# Altium integrated library NXP Semiconductors Cortex-M0.IntLib: 92 symbols (part 1 of 5)
Pins are listed as number, name and electrical type; pins without a type are passive.

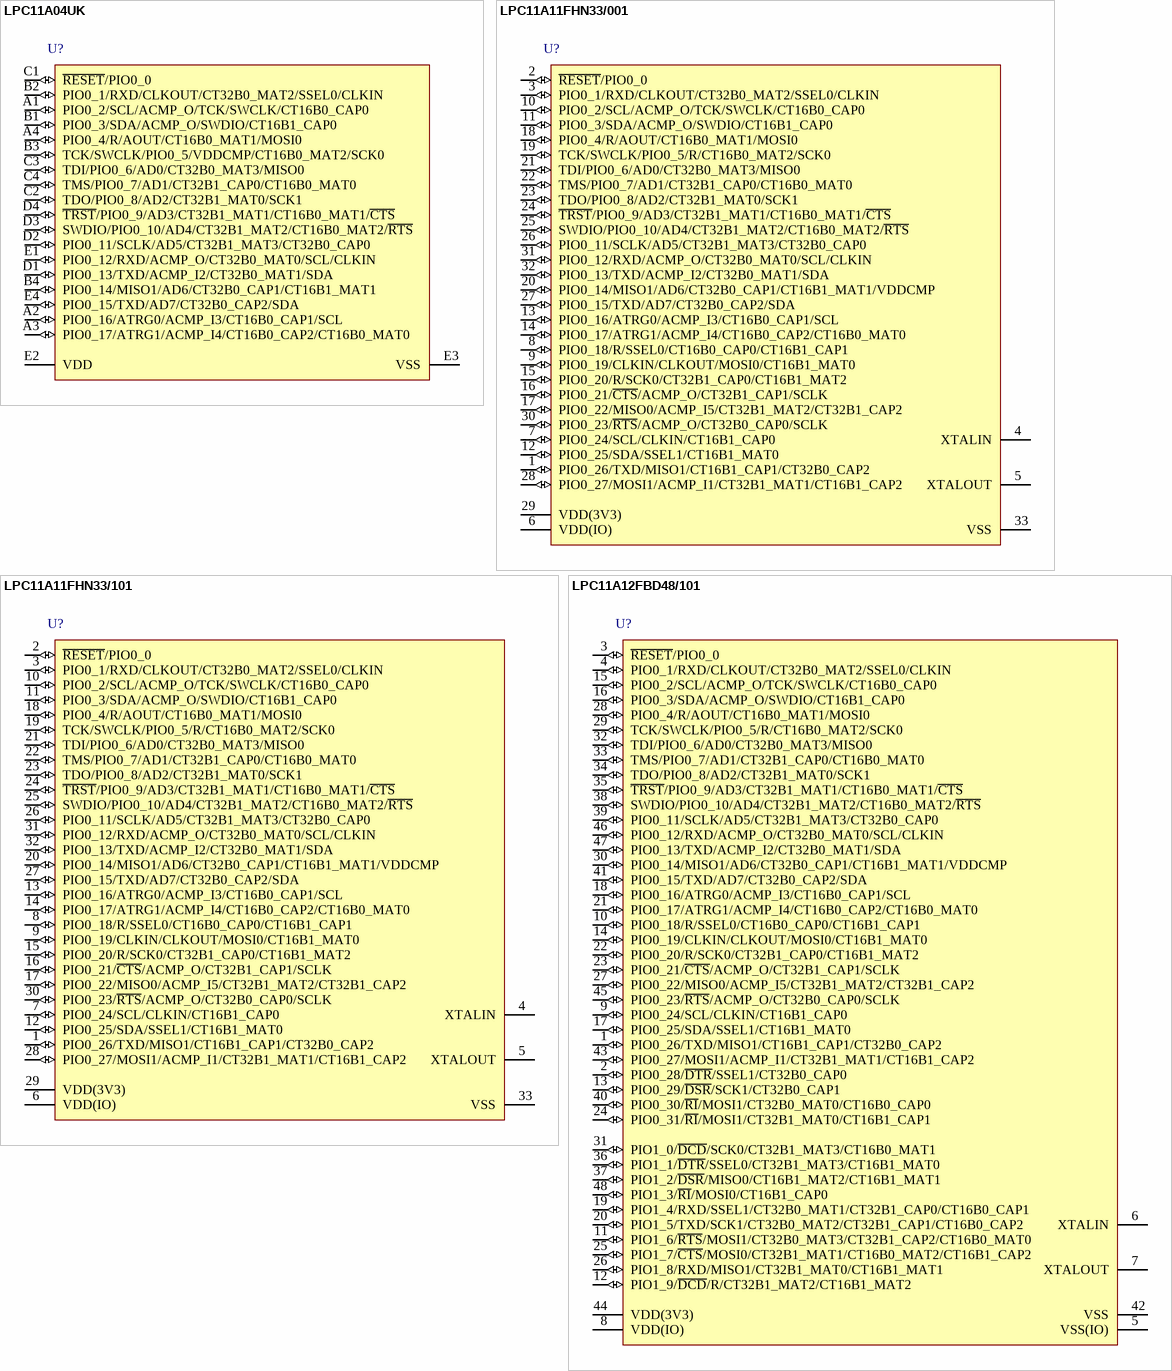
[diagram p0: symbols LPC11A04UK to LPC11A12FBD48/101]

## LPC11A04UK
designator U?
32-bit ARM Cortex-M0 MCU, 32 kB Flash, 8 kB SRAM, 4 kB EEPROM, 1 SSP/SPI, 20-Ball WLCSP; fmax: 50 MHz; SRAM: 8 kB; Flash: 32 kB; EEPROM: 4 kB; GPIOs: 18; UART: 1; PLL: Y; Timers: 4; ADC channels: 8; VDD (min): 2.6 V; VDD (typ): 3.3 V; VDD (max): 3.6 V; DatasheetVersion: Rev.1, Mar-2012; PackageVersion: Mar-2012; PackageReference: LPC11AxxUK; PackageDescription: WLCSP20: Wafer Level Chip-Size Package; 20 Bumps; Body 2.5 x 2.5 x 0.6 mm; I2C: 1; SPI: 1; SSP: 1; Analog comparators: 1; Temperature sensors: 1; ComponentLink1Description: Manufacturer URL; ComponentLink1URL: http://www.nxp.com/; ComponentLink2Description: Datasheet; ComponentLink2URL: http://www.nxp.com/documents/data_sheet/LPC11AXX.pdf
footprint LPC11AxxUK (BGA, 20-Leads, Body 2.55x2.55mm, Pitch 0.5mm, NXP Recommended Pads)
pins: A1 PIO0_2/SCL/ACMP_O/TCK/SWCLK/CT16B0_CAP0 (io), A2 PIO0_16/ATRG0/ACMP_I3/CT16B0_CAP1/SCL (io), A3 PIO0_17/ATRG1/ACMP_I4/CT16B0_CAP2/CT16B0_MAT0 (io), A4 PIO0_4/R/AOUT/CT16B0_MAT1/MOSI0 (io), B1 PIO0_3/SDA/ACMP_O/SWDIO/CT16B1_CAP0 (io), B2 PIO0_1/RXD/CLKOUT/CT32B0_MAT2/SSEL0/CLKIN (io), B3 TCK/SWCLK/PIO0_5/VDDCMP/CT16B0_MAT2/SCK0 (io), B4 PIO0_14/MISO1/AD6/CT32B0_CAP1/CT16B1_MAT1 (io), C1 ~{RESET}/PIO0_0 (io), C2 TDO/PIO0_8/AD2/CT32B1_MAT0/SCK1 (io), C3 TDI/PIO0_6/AD0/CT32B0_MAT3/MISO0 (io), C4 TMS/PIO0_7/AD1/CT32B1_CAP0/CT16B0_MAT0 (io), D1 PIO0_13/TXD/ACMP_I2/CT32B0_MAT1/SDA (io), D2 PIO0_11/SCLK/AD5/CT32B1_MAT3/CT32B0_CAP0 (io), D3 SWDIO/PIO0_10/AD4/CT32B1_MAT2/CT16B0_MAT2/~{RTS} (io), D4 ~{TRST}/PIO0_9/AD3/CT32B1_MAT1/CT16B0_MAT1/~{CTS} (io), E1 PIO0_12/RXD/ACMP_O/CT32B0_MAT0/SCL/CLKIN (io), E2 VDD (power), E3 VSS (power), E4 PIO0_15/TXD/AD7/CT32B0_CAP2/SDA (io)

## LPC11A11FHN33/001
designator U?
32-bit ARM Cortex-M0 MCU, 8 kB Flash, 2 kB SRAM, 512 Bytes EEPROM, 2 SSP/SPI, 32-Pin HVQFN; fmax: 50 MHz; SRAM: 2 kB; Flash: 8 kB; EEPROM: 0.5 kB; GPIOs: 28; UART: 1; SPI: 2; PLL: Y; Timers: 4; ADC channels: 8; VDD (min): 2.6 V; VDD (typ): 3.3 V; VDD (max): 3.6 V; DatasheetVersion: Rev.1, Mar-2012; PackageVersion: Jun-2009; PackageReference: SOT865-3; PackageDescription: HVQFN32: Plastic Thermal Enhanced Very Thin Quad Flat Package; No Leads; 32 Terminals; Body 7 x 7 x 0.85 mm; I2C: 1; SSP: 2; Analog comparators: 1; Temperature sensors: 1; Code_JEDEC: MO-220; ComponentLink1Description: Manufacturer URL; ComponentLink1URL: http://www.nxp.com/; ComponentLink2Description: Datasheet; ComponentLink2URL: http://www.nxp.com/documents/data_sheet/LPC11AXX.pdf
footprint SOT865-3_V (QFN, 32-Leads, Body 7x7mm, Pitch 0.65mm, Thermal Pad 4.7x4.7mm, NXP Recommended)
footprint SOT865-3_N (QFN, 32-Leads, Body 7x7mm, Pitch 0.65mm, Thermal Pad 4.9x4.9mm, IPC Medium Density)
footprint SOT865-3_L (QFN, 32-Leads, Body 7x7mm, Pitch 0.65mm, Thermal Pad 4.9x4.9mm, IPC High Density)
footprint SOT865-3_M (QFN, 32-Leads, Body 7x7mm, Pitch 0.65mm, Thermal Pad 4.9x4.9mm, IPC Low Density)
pins: 1 PIO0_26/TXD/MISO1/CT16B1_CAP1/CT32B0_CAP2 (io), 2 ~{RESET}/PIO0_0 (io), 3 PIO0_1/RXD/CLKOUT/CT32B0_MAT2/SSEL0/CLKIN (io), 4 XTALIN, 5 XTALOUT, 6 VDD(IO) (power), 7 PIO0_24/SCL/CLKIN/CT16B1_CAP0 (io), 8 PIO0_18/R/SSEL0/CT16B0_CAP0/CT16B1_CAP1 (io), 9 PIO0_19/CLKIN/CLKOUT/MOSI0/CT16B1_MAT0 (io), 10 PIO0_2/SCL/ACMP_O/TCK/SWCLK/CT16B0_CAP0 (io), 11 PIO0_3/SDA/ACMP_O/SWDIO/CT16B1_CAP0 (io), 12 PIO0_25/SDA/SSEL1/CT16B1_MAT0 (io), 13 PIO0_16/ATRG0/ACMP_I3/CT16B0_CAP1/SCL (io), 14 PIO0_17/ATRG1/ACMP_I4/CT16B0_CAP2/CT16B0_MAT0 (io), 15 PIO0_20/R/SCK0/CT32B1_CAP0/CT16B1_MAT2 (io), 16 PIO0_21/~{CTS}/ACMP_O/CT32B1_CAP1/SCLK (io), 17 PIO0_22/MISO0/ACMP_I5/CT32B1_MAT2/CT32B1_CAP2 (io), 18 PIO0_4/R/AOUT/CT16B0_MAT1/MOSI0 (io), 19 TCK/SWCLK/PIO0_5/R/CT16B0_MAT2/SCK0 (io), 20 PIO0_14/MISO1/AD6/CT32B0_CAP1/CT16B1_MAT1/VDDCMP (io), 21 TDI/PIO0_6/AD0/CT32B0_MAT3/MISO0 (io), 22 TMS/PIO0_7/AD1/CT32B1_CAP0/CT16B0_MAT0 (io), 23 TDO/PIO0_8/AD2/CT32B1_MAT0/SCK1 (io), 24 ~{TRST}/PIO0_9/AD3/CT32B1_MAT1/CT16B0_MAT1/~{CTS} (io), 25 SWDIO/PIO0_10/AD4/CT32B1_MAT2/CT16B0_MAT2/~{RTS} (io), 26 PIO0_11/SCLK/AD5/CT32B1_MAT3/CT32B0_CAP0 (io), 27 PIO0_15/TXD/AD7/CT32B0_CAP2/SDA (io), 28 PIO0_27/MOSI1/ACMP_I1/CT32B1_MAT1/CT16B1_CAP2 (io), 29 VDD(3V3) (power), 30 PIO0_23/~{RTS}/ACMP_O/CT32B0_CAP0/SCLK (io), 31 PIO0_12/RXD/ACMP_O/CT32B0_MAT0/SCL/CLKIN (io), 32 PIO0_13/TXD/ACMP_I2/CT32B0_MAT1/SDA (io), 33 VSS (power)

## LPC11A11FHN33/101
designator U?
32-bit ARM Cortex-M0 MCU, 8 kB Flash, 2 kB SRAM, 512 Bytes EEPROM, 2 SSP/SPI, 32-Pin HVQFN; fmax: 50 MHz; GPIOs: 28; PLL: Y; Timers: 4; VDD (min): 2.6 V; VDD (typ): 3.3 V; VDD (max): 3.6 V; DatasheetVersion: Rev.1, Mar-2012; PackageVersion: Jun-2009; PackageReference: SOT865-3; PackageDescription: HVQFN32: Plastic Thermal Enhanced Very Thin Quad Flat Package; No Leads; 32 Terminals; Body 7 x 7 x 0.85 mm; Code_JEDEC: MO-220; ComponentLink1Description: Manufacturer URL; ComponentLink1URL: http://www.nxp.com/; ComponentLink2Description: Datasheet; ComponentLink2URL: http://www.nxp.com/documents/data_sheet/LPC11AXX.pdf
footprint SOT865-3_V (QFN, 32-Leads, Body 7x7mm, Pitch 0.65mm, Thermal Pad 4.7x4.7mm, NXP Recommended)
footprint SOT865-3_N (QFN, 32-Leads, Body 7x7mm, Pitch 0.65mm, Thermal Pad 4.9x4.9mm, IPC Medium Density)
footprint SOT865-3_L (QFN, 32-Leads, Body 7x7mm, Pitch 0.65mm, Thermal Pad 4.9x4.9mm, IPC High Density)
footprint SOT865-3_M (QFN, 32-Leads, Body 7x7mm, Pitch 0.65mm, Thermal Pad 4.9x4.9mm, IPC Low Density)
pins: 1 PIO0_26/TXD/MISO1/CT16B1_CAP1/CT32B0_CAP2 (io), 2 ~{RESET}/PIO0_0 (io), 3 PIO0_1/RXD/CLKOUT/CT32B0_MAT2/SSEL0/CLKIN (io), 4 XTALIN, 5 XTALOUT, 6 VDD(IO) (power), 7 PIO0_24/SCL/CLKIN/CT16B1_CAP0 (io), 8 PIO0_18/R/SSEL0/CT16B0_CAP0/CT16B1_CAP1 (io), 9 PIO0_19/CLKIN/CLKOUT/MOSI0/CT16B1_MAT0 (io), 10 PIO0_2/SCL/ACMP_O/TCK/SWCLK/CT16B0_CAP0 (io), 11 PIO0_3/SDA/ACMP_O/SWDIO/CT16B1_CAP0 (io), 12 PIO0_25/SDA/SSEL1/CT16B1_MAT0 (io), 13 PIO0_16/ATRG0/ACMP_I3/CT16B0_CAP1/SCL (io), 14 PIO0_17/ATRG1/ACMP_I4/CT16B0_CAP2/CT16B0_MAT0 (io), 15 PIO0_20/R/SCK0/CT32B1_CAP0/CT16B1_MAT2 (io), 16 PIO0_21/~{CTS}/ACMP_O/CT32B1_CAP1/SCLK (io), 17 PIO0_22/MISO0/ACMP_I5/CT32B1_MAT2/CT32B1_CAP2 (io), 18 PIO0_4/R/AOUT/CT16B0_MAT1/MOSI0 (io), 19 TCK/SWCLK/PIO0_5/R/CT16B0_MAT2/SCK0 (io), 20 PIO0_14/MISO1/AD6/CT32B0_CAP1/CT16B1_MAT1/VDDCMP (io), 21 TDI/PIO0_6/AD0/CT32B0_MAT3/MISO0 (io), 22 TMS/PIO0_7/AD1/CT32B1_CAP0/CT16B0_MAT0 (io), 23 TDO/PIO0_8/AD2/CT32B1_MAT0/SCK1 (io), 24 ~{TRST}/PIO0_9/AD3/CT32B1_MAT1/CT16B0_MAT1/~{CTS} (io), 25 SWDIO/PIO0_10/AD4/CT32B1_MAT2/CT16B0_MAT2/~{RTS} (io), 26 PIO0_11/SCLK/AD5/CT32B1_MAT3/CT32B0_CAP0 (io), 27 PIO0_15/TXD/AD7/CT32B0_CAP2/SDA (io), 28 PIO0_27/MOSI1/ACMP_I1/CT32B1_MAT1/CT16B1_CAP2 (io), 29 VDD(3V3) (power), 30 PIO0_23/~{RTS}/ACMP_O/CT32B0_CAP0/SCLK (io), 31 PIO0_12/RXD/ACMP_O/CT32B0_MAT0/SCL/CLKIN (io), 32 PIO0_13/TXD/ACMP_I2/CT32B0_MAT1/SDA (io), 33 VSS (power)

## LPC11A12FBD48/101
designator U?
32-bit ARM Cortex-M0 MCU, 16 kB Flash, 4 kB SRAM, 1 kB EEPROM, 2 SSP/SPI, 48-Pin LQFP; fmax: 50 MHz; SRAM: 4 kB; Flash: 16 kB; EEPROM: 1 kB; GPIOs: 42; UART: 1; SPI: 2; PLL: Y; Timers: 4; ADC channels: 8; VDD (min): 2.6 V; VDD (typ): 3.3 V; VDD (max): 3.6 V; Code_IEC: 136E05; DatasheetVersion: Rev.1, Mar-2012; PackageVersion: Feb-2003; PackageReference: SOT313-2; PackageDescription: LQFP48: Plastic Low Profile Quad Flat Package; 48 Leads; Body 7 x 7 x 1.4 mm; I2C: 1; SSP: 2; Analog comparators: 1; Temperature sensors: 1; Code_JEDEC: MS-026; ComponentLink1Description: Manufacturer URL; ComponentLink1URL: http://www.nxp.com/; ComponentLink2Description: Datasheet; ComponentLink2URL: http://www.nxp.com/documents/data_sheet/LPC11AXX.pdf
footprint SOT313-2_V (Thin QFP, 48-Leads, Body 7x7mm, Pitch 0.5mm, NXP Recommended)
footprint SOT313-2_N (Thin QFP, 48-Leads, Body 7x7mm, Pitch 0.5mm, IPC Medium Density)
footprint SOT313-2_L (Thin QFP, 48-Leads, Body 7x7mm, Pitch 0.5mm, IPC High Density)
footprint SOT313-2_M (Thin QFP, 48-Leads, Body 7x7mm, Pitch 0.5mm, IPC Low Density)
pins: 1 PIO0_26/TXD/MISO1/CT16B1_CAP1/CT32B0_CAP2 (io), 2 PIO0_28/~{DTR}/SSEL1/CT32B0_CAP0 (io), 3 ~{RESET}/PIO0_0 (io), 4 PIO0_1/RXD/CLKOUT/CT32B0_MAT2/SSEL0/CLKIN (io), 5 VSS(IO) (power), 6 XTALIN, 7 XTALOUT, 8 VDD(IO) (power), 9 PIO0_24/SCL/CLKIN/CT16B1_CAP0 (io), 10 PIO0_18/R/SSEL0/CT16B0_CAP0/CT16B1_CAP1 (io), 11 PIO1_6/~{RTS}/MOSI1/CT32B0_MAT3/CT32B1_CAP2/CT16B0_MAT0 (io), 12 PIO1_9/~{DCD}/R/CT32B1_MAT2/CT16B1_MAT2 (io), 13 PIO0_29/~{DSR}/SCK1/CT32B0_CAP1 (io), 14 PIO0_19/CLKIN/CLKOUT/MOSI0/CT16B1_MAT0 (io), 15 PIO0_2/SCL/ACMP_O/TCK/SWCLK/CT16B0_CAP0 (io), 16 PIO0_3/SDA/ACMP_O/SWDIO/CT16B1_CAP0 (io), 17 PIO0_25/SDA/SSEL1/CT16B1_MAT0 (io), 18 PIO0_16/ATRG0/ACMP_I3/CT16B0_CAP1/SCL (io), 19 PIO1_4/RXD/SSEL1/CT32B0_MAT1/CT32B1_CAP0/CT16B0_CAP1 (io), 20 PIO1_5/TXD/SCK1/CT32B0_MAT2/CT32B1_CAP1/CT16B0_CAP2 (io), 21 PIO0_17/ATRG1/ACMP_I4/CT16B0_CAP2/CT16B0_MAT0 (io), 22 PIO0_20/R/SCK0/CT32B1_CAP0/CT16B1_MAT2 (io), 23 PIO0_21/~{CTS}/ACMP_O/CT32B1_CAP1/SCLK (io), 24 PIO0_31/~{RI}/MOSI1/CT32B1_MAT0/CT16B1_CAP1 (io), 25 PIO1_7/~{CTS}/MOSI0/CT32B1_MAT1/CT16B0_MAT2/CT16B1_CAP2 (io), 26 PIO1_8/RXD/MISO1/CT32B1_MAT0/CT16B1_MAT1 (io), 27 PIO0_22/MISO0/ACMP_I5/CT32B1_MAT2/CT32B1_CAP2 (io), 28 PIO0_4/R/AOUT/CT16B0_MAT1/MOSI0 (io), 29 TCK/SWCLK/PIO0_5/R/CT16B0_MAT2/SCK0 (io), 30 PIO0_14/MISO1/AD6/CT32B0_CAP1/CT16B1_MAT1/VDDCMP (io), 31 PIO1_0/~{DCD}/SCK0/CT32B1_MAT3/CT16B0_MAT1 (io), 32 TDI/PIO0_6/AD0/CT32B0_MAT3/MISO0 (io), 33 TMS/PIO0_7/AD1/CT32B1_CAP0/CT16B0_MAT0 (io), 34 TDO/PIO0_8/AD2/CT32B1_MAT0/SCK1 (io), 35 ~{TRST}/PIO0_9/AD3/CT32B1_MAT1/CT16B0_MAT1/~{CTS} (io), 36 PIO1_1/~{DTR}/SSEL0/CT32B1_MAT3/CT16B1_MAT0 (io), 37 PIO1_2/~{DSR}/MISO0/CT16B1_MAT2/CT16B1_MAT1 (io), 38 SWDIO/PIO0_10/AD4/CT32B1_MAT2/CT16B0_MAT2/~{RTS} (io), 39 PIO0_11/SCLK/AD5/CT32B1_MAT3/CT32B0_CAP0 (io), 40 PIO0_30/~{RI}/MOSI1/CT32B0_MAT0/CT16B0_CAP0 (io), 41 PIO0_15/TXD/AD7/CT32B0_CAP2/SDA (io), 42 VSS (power), 43 PIO0_27/MOSI1/ACMP_I1/CT32B1_MAT1/CT16B1_CAP2 (io), 44 VDD(3V3) (power), 45 PIO0_23/~{RTS}/ACMP_O/CT32B0_CAP0/SCLK (io), 46 PIO0_12/RXD/ACMP_O/CT32B0_MAT0/SCL/CLKIN (io), 47 PIO0_13/TXD/ACMP_I2/CT32B0_MAT1/SDA (io), 48 PIO1_3/~{RI}/MOSI0/CT16B1_CAP0 (io)

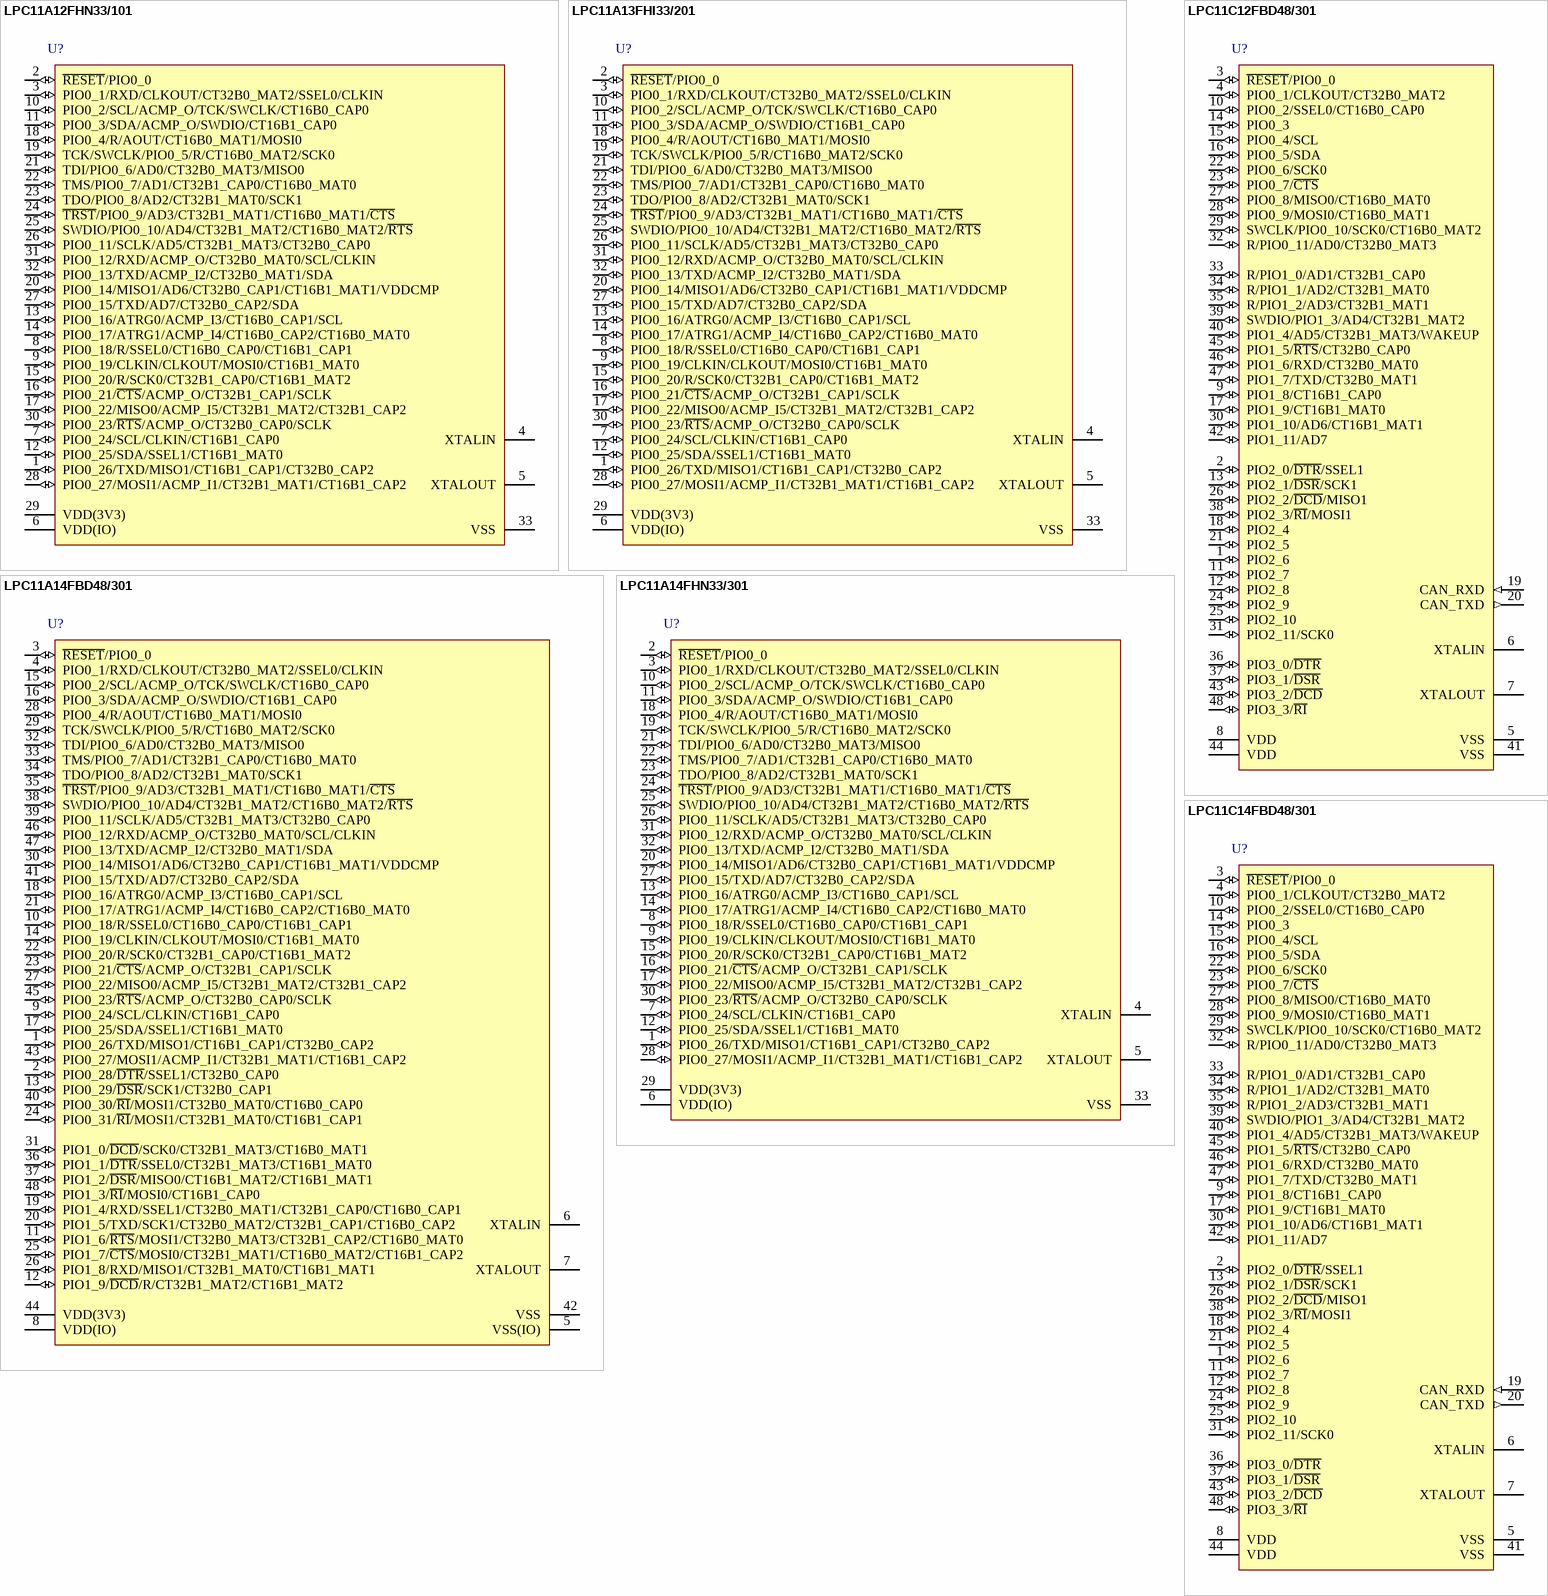
[diagram p1: symbols LPC11A12FHN33/101 to LPC11C14FBD48/301]

## LPC11A12FHN33/101
designator U?
32-bit ARM Cortex-M0 MCU, 16 kB Flash, 4 kB SRAM, 1 kB EEPROM, 2 SSP/SPI, 32-Pin HVQFN; fmax: 50 MHz; SRAM: 4 kB; Flash: 16 kB; EEPROM: 1 kB; GPIOs: 28; UART: 1; SPI: 2; PLL: Y; Timers: 4; ADC channels: 8; VDD (min): 2.6 V; VDD (typ): 3.3 V; VDD (max): 3.6 V; DatasheetVersion: Rev.1, Mar-2012; PackageVersion: Jun-2009; PackageReference: SOT865-3; PackageDescription: HVQFN32: Plastic Thermal Enhanced Very Thin Quad Flat Package; No Leads; 32 Terminals; Body 7 x 7 x 0.85 mm; I2C: 1; SSP: 2; Analog comparators: 1; Temperature sensors: 1; Code_JEDEC: MO-220; ComponentLink1Description: Manufacturer URL; ComponentLink1URL: http://www.nxp.com/; ComponentLink2Description: Datasheet; ComponentLink2URL: http://www.nxp.com/documents/data_sheet/LPC11AXX.pdf
footprint SOT865-3_V (QFN, 32-Leads, Body 7x7mm, Pitch 0.65mm, Thermal Pad 4.7x4.7mm, NXP Recommended)
footprint SOT865-3_N (QFN, 32-Leads, Body 7x7mm, Pitch 0.65mm, Thermal Pad 4.9x4.9mm, IPC Medium Density)
footprint SOT865-3_L (QFN, 32-Leads, Body 7x7mm, Pitch 0.65mm, Thermal Pad 4.9x4.9mm, IPC High Density)
footprint SOT865-3_M (QFN, 32-Leads, Body 7x7mm, Pitch 0.65mm, Thermal Pad 4.9x4.9mm, IPC Low Density)
pins: 1 PIO0_26/TXD/MISO1/CT16B1_CAP1/CT32B0_CAP2 (io), 2 ~{RESET}/PIO0_0 (io), 3 PIO0_1/RXD/CLKOUT/CT32B0_MAT2/SSEL0/CLKIN (io), 4 XTALIN, 5 XTALOUT, 6 VDD(IO) (power), 7 PIO0_24/SCL/CLKIN/CT16B1_CAP0 (io), 8 PIO0_18/R/SSEL0/CT16B0_CAP0/CT16B1_CAP1 (io), 9 PIO0_19/CLKIN/CLKOUT/MOSI0/CT16B1_MAT0 (io), 10 PIO0_2/SCL/ACMP_O/TCK/SWCLK/CT16B0_CAP0 (io), 11 PIO0_3/SDA/ACMP_O/SWDIO/CT16B1_CAP0 (io), 12 PIO0_25/SDA/SSEL1/CT16B1_MAT0 (io), 13 PIO0_16/ATRG0/ACMP_I3/CT16B0_CAP1/SCL (io), 14 PIO0_17/ATRG1/ACMP_I4/CT16B0_CAP2/CT16B0_MAT0 (io), 15 PIO0_20/R/SCK0/CT32B1_CAP0/CT16B1_MAT2 (io), 16 PIO0_21/~{CTS}/ACMP_O/CT32B1_CAP1/SCLK (io), 17 PIO0_22/MISO0/ACMP_I5/CT32B1_MAT2/CT32B1_CAP2 (io), 18 PIO0_4/R/AOUT/CT16B0_MAT1/MOSI0 (io), 19 TCK/SWCLK/PIO0_5/R/CT16B0_MAT2/SCK0 (io), 20 PIO0_14/MISO1/AD6/CT32B0_CAP1/CT16B1_MAT1/VDDCMP (io), 21 TDI/PIO0_6/AD0/CT32B0_MAT3/MISO0 (io), 22 TMS/PIO0_7/AD1/CT32B1_CAP0/CT16B0_MAT0 (io), 23 TDO/PIO0_8/AD2/CT32B1_MAT0/SCK1 (io), 24 ~{TRST}/PIO0_9/AD3/CT32B1_MAT1/CT16B0_MAT1/~{CTS} (io), 25 SWDIO/PIO0_10/AD4/CT32B1_MAT2/CT16B0_MAT2/~{RTS} (io), 26 PIO0_11/SCLK/AD5/CT32B1_MAT3/CT32B0_CAP0 (io), 27 PIO0_15/TXD/AD7/CT32B0_CAP2/SDA (io), 28 PIO0_27/MOSI1/ACMP_I1/CT32B1_MAT1/CT16B1_CAP2 (io), 29 VDD(3V3) (power), 30 PIO0_23/~{RTS}/ACMP_O/CT32B0_CAP0/SCLK (io), 31 PIO0_12/RXD/ACMP_O/CT32B0_MAT0/SCL/CLKIN (io), 32 PIO0_13/TXD/ACMP_I2/CT32B0_MAT1/SDA (io), 33 VSS (power)

## LPC11A13FHI33/201
designator U?
32-bit ARM Cortex-M0 MCU, 24 kB Flash, 6 kB SRAM, 2 kB EEPROM, 2 SSP/SPI, 32-Pin HVQFN; fmax: 50 MHz; SRAM: 6 kB; Flash: 24 kB; EEPROM: 2 kB; GPIOs: 28; UART: 1; SPI: 2; PLL: Y; Timers: 4; ADC channels: 8; VDD (min): 2.6 V; VDD (typ): 3.3 V; VDD (max): 3.6 V; DatasheetVersion: Rev.1, Mar-2012; PackageVersion: Jun-2009; PackageReference: SOT865-3; PackageDescription: HVQFN32: Plastic Thermal Enhanced Very Thin Quad Flat Package; No Leads; 32 Terminals; Body 7 x 7 x 0.85 mm; I2C: 1; SSP: 2; Analog comparators: 1; Temperature sensors: 1; Code_JEDEC: MO-220; ComponentLink1Description: Manufacturer URL; ComponentLink1URL: http://www.nxp.com/; ComponentLink2Description: Datasheet; ComponentLink2URL: http://www.nxp.com/documents/data_sheet/LPC11AXX.pdf
footprint SOT865-3_V (QFN, 32-Leads, Body 7x7mm, Pitch 0.65mm, Thermal Pad 4.7x4.7mm, NXP Recommended)
footprint SOT865-3_N (QFN, 32-Leads, Body 7x7mm, Pitch 0.65mm, Thermal Pad 4.9x4.9mm, IPC Medium Density)
footprint SOT865-3_L (QFN, 32-Leads, Body 7x7mm, Pitch 0.65mm, Thermal Pad 4.9x4.9mm, IPC High Density)
footprint SOT865-3_M (QFN, 32-Leads, Body 7x7mm, Pitch 0.65mm, Thermal Pad 4.9x4.9mm, IPC Low Density)
pins: 1 PIO0_26/TXD/MISO1/CT16B1_CAP1/CT32B0_CAP2 (io), 2 ~{RESET}/PIO0_0 (io), 3 PIO0_1/RXD/CLKOUT/CT32B0_MAT2/SSEL0/CLKIN (io), 4 XTALIN, 5 XTALOUT, 6 VDD(IO) (power), 7 PIO0_24/SCL/CLKIN/CT16B1_CAP0 (io), 8 PIO0_18/R/SSEL0/CT16B0_CAP0/CT16B1_CAP1 (io), 9 PIO0_19/CLKIN/CLKOUT/MOSI0/CT16B1_MAT0 (io), 10 PIO0_2/SCL/ACMP_O/TCK/SWCLK/CT16B0_CAP0 (io), 11 PIO0_3/SDA/ACMP_O/SWDIO/CT16B1_CAP0 (io), 12 PIO0_25/SDA/SSEL1/CT16B1_MAT0 (io), 13 PIO0_16/ATRG0/ACMP_I3/CT16B0_CAP1/SCL (io), 14 PIO0_17/ATRG1/ACMP_I4/CT16B0_CAP2/CT16B0_MAT0 (io), 15 PIO0_20/R/SCK0/CT32B1_CAP0/CT16B1_MAT2 (io), 16 PIO0_21/~{CTS}/ACMP_O/CT32B1_CAP1/SCLK (io), 17 PIO0_22/MISO0/ACMP_I5/CT32B1_MAT2/CT32B1_CAP2 (io), 18 PIO0_4/R/AOUT/CT16B0_MAT1/MOSI0 (io), 19 TCK/SWCLK/PIO0_5/R/CT16B0_MAT2/SCK0 (io), 20 PIO0_14/MISO1/AD6/CT32B0_CAP1/CT16B1_MAT1/VDDCMP (io), 21 TDI/PIO0_6/AD0/CT32B0_MAT3/MISO0 (io), 22 TMS/PIO0_7/AD1/CT32B1_CAP0/CT16B0_MAT0 (io), 23 TDO/PIO0_8/AD2/CT32B1_MAT0/SCK1 (io), 24 ~{TRST}/PIO0_9/AD3/CT32B1_MAT1/CT16B0_MAT1/~{CTS} (io), 25 SWDIO/PIO0_10/AD4/CT32B1_MAT2/CT16B0_MAT2/~{RTS} (io), 26 PIO0_11/SCLK/AD5/CT32B1_MAT3/CT32B0_CAP0 (io), 27 PIO0_15/TXD/AD7/CT32B0_CAP2/SDA (io), 28 PIO0_27/MOSI1/ACMP_I1/CT32B1_MAT1/CT16B1_CAP2 (io), 29 VDD(3V3) (power), 30 PIO0_23/~{RTS}/ACMP_O/CT32B0_CAP0/SCLK (io), 31 PIO0_12/RXD/ACMP_O/CT32B0_MAT0/SCL/CLKIN (io), 32 PIO0_13/TXD/ACMP_I2/CT32B0_MAT1/SDA (io), 33 VSS (power)

## LPC11A14FBD48/301
designator U?
32-bit ARM Cortex-M0 MCU, 32 kB Flash, 8 kB SRAM, 4 kB EEPROM, 2 SSP/SPI, 48-Pin LQFP; fmax: 50 MHz; SRAM: 8 kB; Flash: 32 kB; EEPROM: 4 kB; GPIOs: 42; UART: 1; SPI: 2; PLL: Y; Timers: 4; ADC channels: 8; VDD (min): 2.6 V; VDD (typ): 3.3 V; VDD (max): 3.6 V; Code_IEC: 136E05; DatasheetVersion: Rev.1, Mar-2012; PackageVersion: Feb-2003; PackageReference: SOT313-2; PackageDescription: LQFP48: Plastic Low Profile Quad Flat Package; 48 Leads; Body 7 x 7 x 1.4 mm; I2C: 1; SSP: 2; Analog comparators: 1; Temperature sensors: 1; Code_JEDEC: MS-026; ComponentLink1Description: Manufacturer URL; ComponentLink1URL: http://www.nxp.com/; ComponentLink2Description: Datasheet; ComponentLink2URL: http://www.nxp.com/documents/data_sheet/LPC11AXX.pdf
footprint SOT313-2_V (Thin QFP, 48-Leads, Body 7x7mm, Pitch 0.5mm, NXP Recommended)
footprint SOT313-2_N (Thin QFP, 48-Leads, Body 7x7mm, Pitch 0.5mm, IPC Medium Density)
footprint SOT313-2_L (Thin QFP, 48-Leads, Body 7x7mm, Pitch 0.5mm, IPC High Density)
footprint SOT313-2_M (Thin QFP, 48-Leads, Body 7x7mm, Pitch 0.5mm, IPC Low Density)
pins: 1 PIO0_26/TXD/MISO1/CT16B1_CAP1/CT32B0_CAP2 (io), 2 PIO0_28/~{DTR}/SSEL1/CT32B0_CAP0 (io), 3 ~{RESET}/PIO0_0 (io), 4 PIO0_1/RXD/CLKOUT/CT32B0_MAT2/SSEL0/CLKIN (io), 5 VSS(IO) (power), 6 XTALIN, 7 XTALOUT, 8 VDD(IO) (power), 9 PIO0_24/SCL/CLKIN/CT16B1_CAP0 (io), 10 PIO0_18/R/SSEL0/CT16B0_CAP0/CT16B1_CAP1 (io), 11 PIO1_6/~{RTS}/MOSI1/CT32B0_MAT3/CT32B1_CAP2/CT16B0_MAT0 (io), 12 PIO1_9/~{DCD}/R/CT32B1_MAT2/CT16B1_MAT2 (io), 13 PIO0_29/~{DSR}/SCK1/CT32B0_CAP1 (io), 14 PIO0_19/CLKIN/CLKOUT/MOSI0/CT16B1_MAT0 (io), 15 PIO0_2/SCL/ACMP_O/TCK/SWCLK/CT16B0_CAP0 (io), 16 PIO0_3/SDA/ACMP_O/SWDIO/CT16B1_CAP0 (io), 17 PIO0_25/SDA/SSEL1/CT16B1_MAT0 (io), 18 PIO0_16/ATRG0/ACMP_I3/CT16B0_CAP1/SCL (io), 19 PIO1_4/RXD/SSEL1/CT32B0_MAT1/CT32B1_CAP0/CT16B0_CAP1 (io), 20 PIO1_5/TXD/SCK1/CT32B0_MAT2/CT32B1_CAP1/CT16B0_CAP2 (io), 21 PIO0_17/ATRG1/ACMP_I4/CT16B0_CAP2/CT16B0_MAT0 (io), 22 PIO0_20/R/SCK0/CT32B1_CAP0/CT16B1_MAT2 (io), 23 PIO0_21/~{CTS}/ACMP_O/CT32B1_CAP1/SCLK (io), 24 PIO0_31/~{RI}/MOSI1/CT32B1_MAT0/CT16B1_CAP1 (io), 25 PIO1_7/~{CTS}/MOSI0/CT32B1_MAT1/CT16B0_MAT2/CT16B1_CAP2 (io), 26 PIO1_8/RXD/MISO1/CT32B1_MAT0/CT16B1_MAT1 (io), 27 PIO0_22/MISO0/ACMP_I5/CT32B1_MAT2/CT32B1_CAP2 (io), 28 PIO0_4/R/AOUT/CT16B0_MAT1/MOSI0 (io), 29 TCK/SWCLK/PIO0_5/R/CT16B0_MAT2/SCK0 (io), 30 PIO0_14/MISO1/AD6/CT32B0_CAP1/CT16B1_MAT1/VDDCMP (io), 31 PIO1_0/~{DCD}/SCK0/CT32B1_MAT3/CT16B0_MAT1 (io), 32 TDI/PIO0_6/AD0/CT32B0_MAT3/MISO0 (io), 33 TMS/PIO0_7/AD1/CT32B1_CAP0/CT16B0_MAT0 (io), 34 TDO/PIO0_8/AD2/CT32B1_MAT0/SCK1 (io), 35 ~{TRST}/PIO0_9/AD3/CT32B1_MAT1/CT16B0_MAT1/~{CTS} (io), 36 PIO1_1/~{DTR}/SSEL0/CT32B1_MAT3/CT16B1_MAT0 (io), 37 PIO1_2/~{DSR}/MISO0/CT16B1_MAT2/CT16B1_MAT1 (io), 38 SWDIO/PIO0_10/AD4/CT32B1_MAT2/CT16B0_MAT2/~{RTS} (io), 39 PIO0_11/SCLK/AD5/CT32B1_MAT3/CT32B0_CAP0 (io), 40 PIO0_30/~{RI}/MOSI1/CT32B0_MAT0/CT16B0_CAP0 (io), 41 PIO0_15/TXD/AD7/CT32B0_CAP2/SDA (io), 42 VSS (power), 43 PIO0_27/MOSI1/ACMP_I1/CT32B1_MAT1/CT16B1_CAP2 (io), 44 VDD(3V3) (power), 45 PIO0_23/~{RTS}/ACMP_O/CT32B0_CAP0/SCLK (io), 46 PIO0_12/RXD/ACMP_O/CT32B0_MAT0/SCL/CLKIN (io), 47 PIO0_13/TXD/ACMP_I2/CT32B0_MAT1/SDA (io), 48 PIO1_3/~{RI}/MOSI0/CT16B1_CAP0 (io)

## LPC11A14FHN33/301
designator U?
32-bit ARM Cortex-M0 MCU, 32 kB Flash, 8 kB SRAM, 4 kB EEPROM, 2 SSP/SPI, 32-Pin HVQFN; fmax: 50 MHz; SRAM: 8 kB; Flash: 32 kB; EEPROM: 4 kB; GPIOs: 28; UART: 1; SPI: 2; PLL: Y; Timers: 4; ADC channels: 8; VDD (min): 2.6 V; VDD (typ): 3.3 V; VDD (max): 3.6 V; DatasheetVersion: Rev.1, Mar-2012; PackageVersion: Jun-2009; PackageReference: SOT865-3; PackageDescription: HVQFN32: Plastic Thermal Enhanced Very Thin Quad Flat Package; No Leads; 32 Terminals; Body 7 x 7 x 0.85 mm; I2C: 1; SSP: 2; Analog comparators: 1; Temperature sensors: 1; Code_JEDEC: MO-220; ComponentLink1Description: Manufacturer URL; ComponentLink1URL: http://www.nxp.com/; ComponentLink2Description: Datasheet; ComponentLink2URL: http://www.nxp.com/documents/data_sheet/LPC11AXX.pdf
footprint SOT865-3_V (QFN, 32-Leads, Body 7x7mm, Pitch 0.65mm, Thermal Pad 4.7x4.7mm, NXP Recommended)
footprint SOT865-3_N (QFN, 32-Leads, Body 7x7mm, Pitch 0.65mm, Thermal Pad 4.9x4.9mm, IPC Medium Density)
footprint SOT865-3_L (QFN, 32-Leads, Body 7x7mm, Pitch 0.65mm, Thermal Pad 4.9x4.9mm, IPC High Density)
footprint SOT865-3_M (QFN, 32-Leads, Body 7x7mm, Pitch 0.65mm, Thermal Pad 4.9x4.9mm, IPC Low Density)
pins: 1 PIO0_26/TXD/MISO1/CT16B1_CAP1/CT32B0_CAP2 (io), 2 ~{RESET}/PIO0_0 (io), 3 PIO0_1/RXD/CLKOUT/CT32B0_MAT2/SSEL0/CLKIN (io), 4 XTALIN, 5 XTALOUT, 6 VDD(IO) (power), 7 PIO0_24/SCL/CLKIN/CT16B1_CAP0 (io), 8 PIO0_18/R/SSEL0/CT16B0_CAP0/CT16B1_CAP1 (io), 9 PIO0_19/CLKIN/CLKOUT/MOSI0/CT16B1_MAT0 (io), 10 PIO0_2/SCL/ACMP_O/TCK/SWCLK/CT16B0_CAP0 (io), 11 PIO0_3/SDA/ACMP_O/SWDIO/CT16B1_CAP0 (io), 12 PIO0_25/SDA/SSEL1/CT16B1_MAT0 (io), 13 PIO0_16/ATRG0/ACMP_I3/CT16B0_CAP1/SCL (io), 14 PIO0_17/ATRG1/ACMP_I4/CT16B0_CAP2/CT16B0_MAT0 (io), 15 PIO0_20/R/SCK0/CT32B1_CAP0/CT16B1_MAT2 (io), 16 PIO0_21/~{CTS}/ACMP_O/CT32B1_CAP1/SCLK (io), 17 PIO0_22/MISO0/ACMP_I5/CT32B1_MAT2/CT32B1_CAP2 (io), 18 PIO0_4/R/AOUT/CT16B0_MAT1/MOSI0 (io), 19 TCK/SWCLK/PIO0_5/R/CT16B0_MAT2/SCK0 (io), 20 PIO0_14/MISO1/AD6/CT32B0_CAP1/CT16B1_MAT1/VDDCMP (io), 21 TDI/PIO0_6/AD0/CT32B0_MAT3/MISO0 (io), 22 TMS/PIO0_7/AD1/CT32B1_CAP0/CT16B0_MAT0 (io), 23 TDO/PIO0_8/AD2/CT32B1_MAT0/SCK1 (io), 24 ~{TRST}/PIO0_9/AD3/CT32B1_MAT1/CT16B0_MAT1/~{CTS} (io), 25 SWDIO/PIO0_10/AD4/CT32B1_MAT2/CT16B0_MAT2/~{RTS} (io), 26 PIO0_11/SCLK/AD5/CT32B1_MAT3/CT32B0_CAP0 (io), 27 PIO0_15/TXD/AD7/CT32B0_CAP2/SDA (io), 28 PIO0_27/MOSI1/ACMP_I1/CT32B1_MAT1/CT16B1_CAP2 (io), 29 VDD(3V3) (power), 30 PIO0_23/~{RTS}/ACMP_O/CT32B0_CAP0/SCLK (io), 31 PIO0_12/RXD/ACMP_O/CT32B0_MAT0/SCL/CLKIN (io), 32 PIO0_13/TXD/ACMP_I2/CT32B0_MAT1/SDA (io), 33 VSS (power)

## LPC11C12FBD48/301
designator U?
32-bit ARM Cortex-M0 MCU, 16 kB Flash, 8 kB SRAM, CAN, CAN drivers on-chip, 48-Pin LQFP; fmax: 50 MHz; SRAM: 8 kB; Flash: 16 kB; GPIOs: 40; CAN: 1; SPI: 2; PLL: Y; Timers: 4; ADC channels: 8; VDD (min): 1.8 V; VDD (typ): 3.3 V; VDD (max): 3.6 V; Code_IEC: 136E05; DatasheetVersion: Rev. 3, Jun-2011; PackageVersion: Feb-2003; PackageReference: SOT313-2; PackageDescription: LQFP48: Plastic Low Profile Quad Flat Package; 48 Leads; Body 7 x 7 x 1.4 mm; UART: 1; I2C: 1; Code_JEDEC: MS-026; ComponentLink1Description: Manufacturer URL; ComponentLink1URL: http://www.nxp.com/; ComponentLink2Description: Datasheet; ComponentLink2URL: http://www.nxp.com/documents/data_sheet/LPC11CX2_CX4.pdf
footprint SOT313-2_V (Thin QFP, 48-Leads, Body 7x7mm, Pitch 0.5mm, NXP Recommended)
footprint SOT313-2_N (Thin QFP, 48-Leads, Body 7x7mm, Pitch 0.5mm, IPC Medium Density)
footprint SOT313-2_L (Thin QFP, 48-Leads, Body 7x7mm, Pitch 0.5mm, IPC High Density)
footprint SOT313-2_M (Thin QFP, 48-Leads, Body 7x7mm, Pitch 0.5mm, IPC Low Density)
pins: 1 PIO2_6 (io), 2 PIO2_0/~{DTR}/SSEL1 (io), 3 ~{RESET}/PIO0_0 (io), 4 PIO0_1/CLKOUT/CT32B0_MAT2 (io), 5 VSS (power), 6 XTALIN, 7 XTALOUT, 8 VDD (power), 9 PIO1_8/CT16B1_CAP0 (io), 10 PIO0_2/SSEL0/CT16B0_CAP0 (io), 11 PIO2_7 (io), 12 PIO2_8 (io), 13 PIO2_1/~{DSR}/SCK1 (io), 14 PIO0_3 (io), 15 PIO0_4/SCL (io), 16 PIO0_5/SDA (io), 17 PIO1_9/CT16B1_MAT0 (io), 18 PIO2_4 (io), 19 CAN_RXD (in), 20 CAN_TXD (out), 21 PIO2_5 (io), 22 PIO0_6/SCK0 (io), 23 PIO0_7/~{CTS} (io), 24 PIO2_9 (io), 25 PIO2_10 (io), 26 PIO2_2/~{DCD}/MISO1 (io), 27 PIO0_8/MISO0/CT16B0_MAT0 (io), 28 PIO0_9/MOSI0/CT16B0_MAT1 (io), 29 SWCLK/PIO0_10/SCK0/CT16B0_MAT2 (io), 30 PIO1_10/AD6/CT16B1_MAT1 (io), 31 PIO2_11/SCK0 (io), 32 R/PIO0_11/AD0/CT32B0_MAT3 (io), 33 R/PIO1_0/AD1/CT32B1_CAP0 (io), 34 R/PIO1_1/AD2/CT32B1_MAT0 (io), 35 R/PIO1_2/AD3/CT32B1_MAT1 (io), 36 PIO3_0/~{DTR} (io), 37 PIO3_1/~{DSR} (io), 38 PIO2_3/~{RI}/MOSI1 (io), 39 SWDIO/PIO1_3/AD4/CT32B1_MAT2 (io), 40 PIO1_4/AD5/CT32B1_MAT3/WAKEUP (io), 41 VSS (power), 42 PIO1_11/AD7 (io), 43 PIO3_2/~{DCD} (io), 44 VDD (power), 45 PIO1_5/~{RTS}/CT32B0_CAP0 (io), 46 PIO1_6/RXD/CT32B0_MAT0 (io), 47 PIO1_7/TXD/CT32B0_MAT1 (io), 48 PIO3_3/~{RI} (io)

## LPC11C14FBD48/301
designator U?
32-bit ARM Cortex-M0 MCU, 32 kB Flash, 8 kB SRAM, CAN, CAN drivers on-chip, 48-Pin LQFP; fmax: 50 MHz; SRAM: 8 kB; Flash: 32 kB; GPIOs: 40; CAN: 1; SPI: 2; PLL: Y; Timers: 4; ADC channels: 8; VDD (min): 1.8 V; VDD (typ): 3.3 V; VDD (max): 3.6 V; Code_IEC: 136E05; DatasheetVersion: Rev. 3, Jun-2011; PackageVersion: Feb-2003; PackageReference: SOT313-2; PackageDescription: LQFP48: Plastic Low Profile Quad Flat Package; 48 Leads; Body 7 x 7 x 1.4 mm; UART: 1; I2C: 1; Code_JEDEC: MS-026; ComponentLink1Description: Manufacturer URL; ComponentLink1URL: http://www.nxp.com/; ComponentLink2Description: Datasheet; ComponentLink2URL: http://www.nxp.com/documents/data_sheet/LPC11CX2_CX4.pdf
footprint SOT313-2_V (Thin QFP, 48-Leads, Body 7x7mm, Pitch 0.5mm, NXP Recommended)
footprint SOT313-2_N (Thin QFP, 48-Leads, Body 7x7mm, Pitch 0.5mm, IPC Medium Density)
footprint SOT313-2_L (Thin QFP, 48-Leads, Body 7x7mm, Pitch 0.5mm, IPC High Density)
footprint SOT313-2_M (Thin QFP, 48-Leads, Body 7x7mm, Pitch 0.5mm, IPC Low Density)
pins: 1 PIO2_6 (io), 2 PIO2_0/~{DTR}/SSEL1 (io), 3 ~{RESET}/PIO0_0 (io), 4 PIO0_1/CLKOUT/CT32B0_MAT2 (io), 5 VSS (power), 6 XTALIN, 7 XTALOUT, 8 VDD (power), 9 PIO1_8/CT16B1_CAP0 (io), 10 PIO0_2/SSEL0/CT16B0_CAP0 (io), 11 PIO2_7 (io), 12 PIO2_8 (io), 13 PIO2_1/~{DSR}/SCK1 (io), 14 PIO0_3 (io), 15 PIO0_4/SCL (io), 16 PIO0_5/SDA (io), 17 PIO1_9/CT16B1_MAT0 (io), 18 PIO2_4 (io), 19 CAN_RXD (in), 20 CAN_TXD (out), 21 PIO2_5 (io), 22 PIO0_6/SCK0 (io), 23 PIO0_7/~{CTS} (io), 24 PIO2_9 (io), 25 PIO2_10 (io), 26 PIO2_2/~{DCD}/MISO1 (io), 27 PIO0_8/MISO0/CT16B0_MAT0 (io), 28 PIO0_9/MOSI0/CT16B0_MAT1 (io), 29 SWCLK/PIO0_10/SCK0/CT16B0_MAT2 (io), 30 PIO1_10/AD6/CT16B1_MAT1 (io), 31 PIO2_11/SCK0 (io), 32 R/PIO0_11/AD0/CT32B0_MAT3 (io), 33 R/PIO1_0/AD1/CT32B1_CAP0 (io), 34 R/PIO1_1/AD2/CT32B1_MAT0 (io), 35 R/PIO1_2/AD3/CT32B1_MAT1 (io), 36 PIO3_0/~{DTR} (io), 37 PIO3_1/~{DSR} (io), 38 PIO2_3/~{RI}/MOSI1 (io), 39 SWDIO/PIO1_3/AD4/CT32B1_MAT2 (io), 40 PIO1_4/AD5/CT32B1_MAT3/WAKEUP (io), 41 VSS (power), 42 PIO1_11/AD7 (io), 43 PIO3_2/~{DCD} (io), 44 VDD (power), 45 PIO1_5/~{RTS}/CT32B0_CAP0 (io), 46 PIO1_6/RXD/CT32B0_MAT0 (io), 47 PIO1_7/TXD/CT32B0_MAT1 (io), 48 PIO3_3/~{RI} (io)

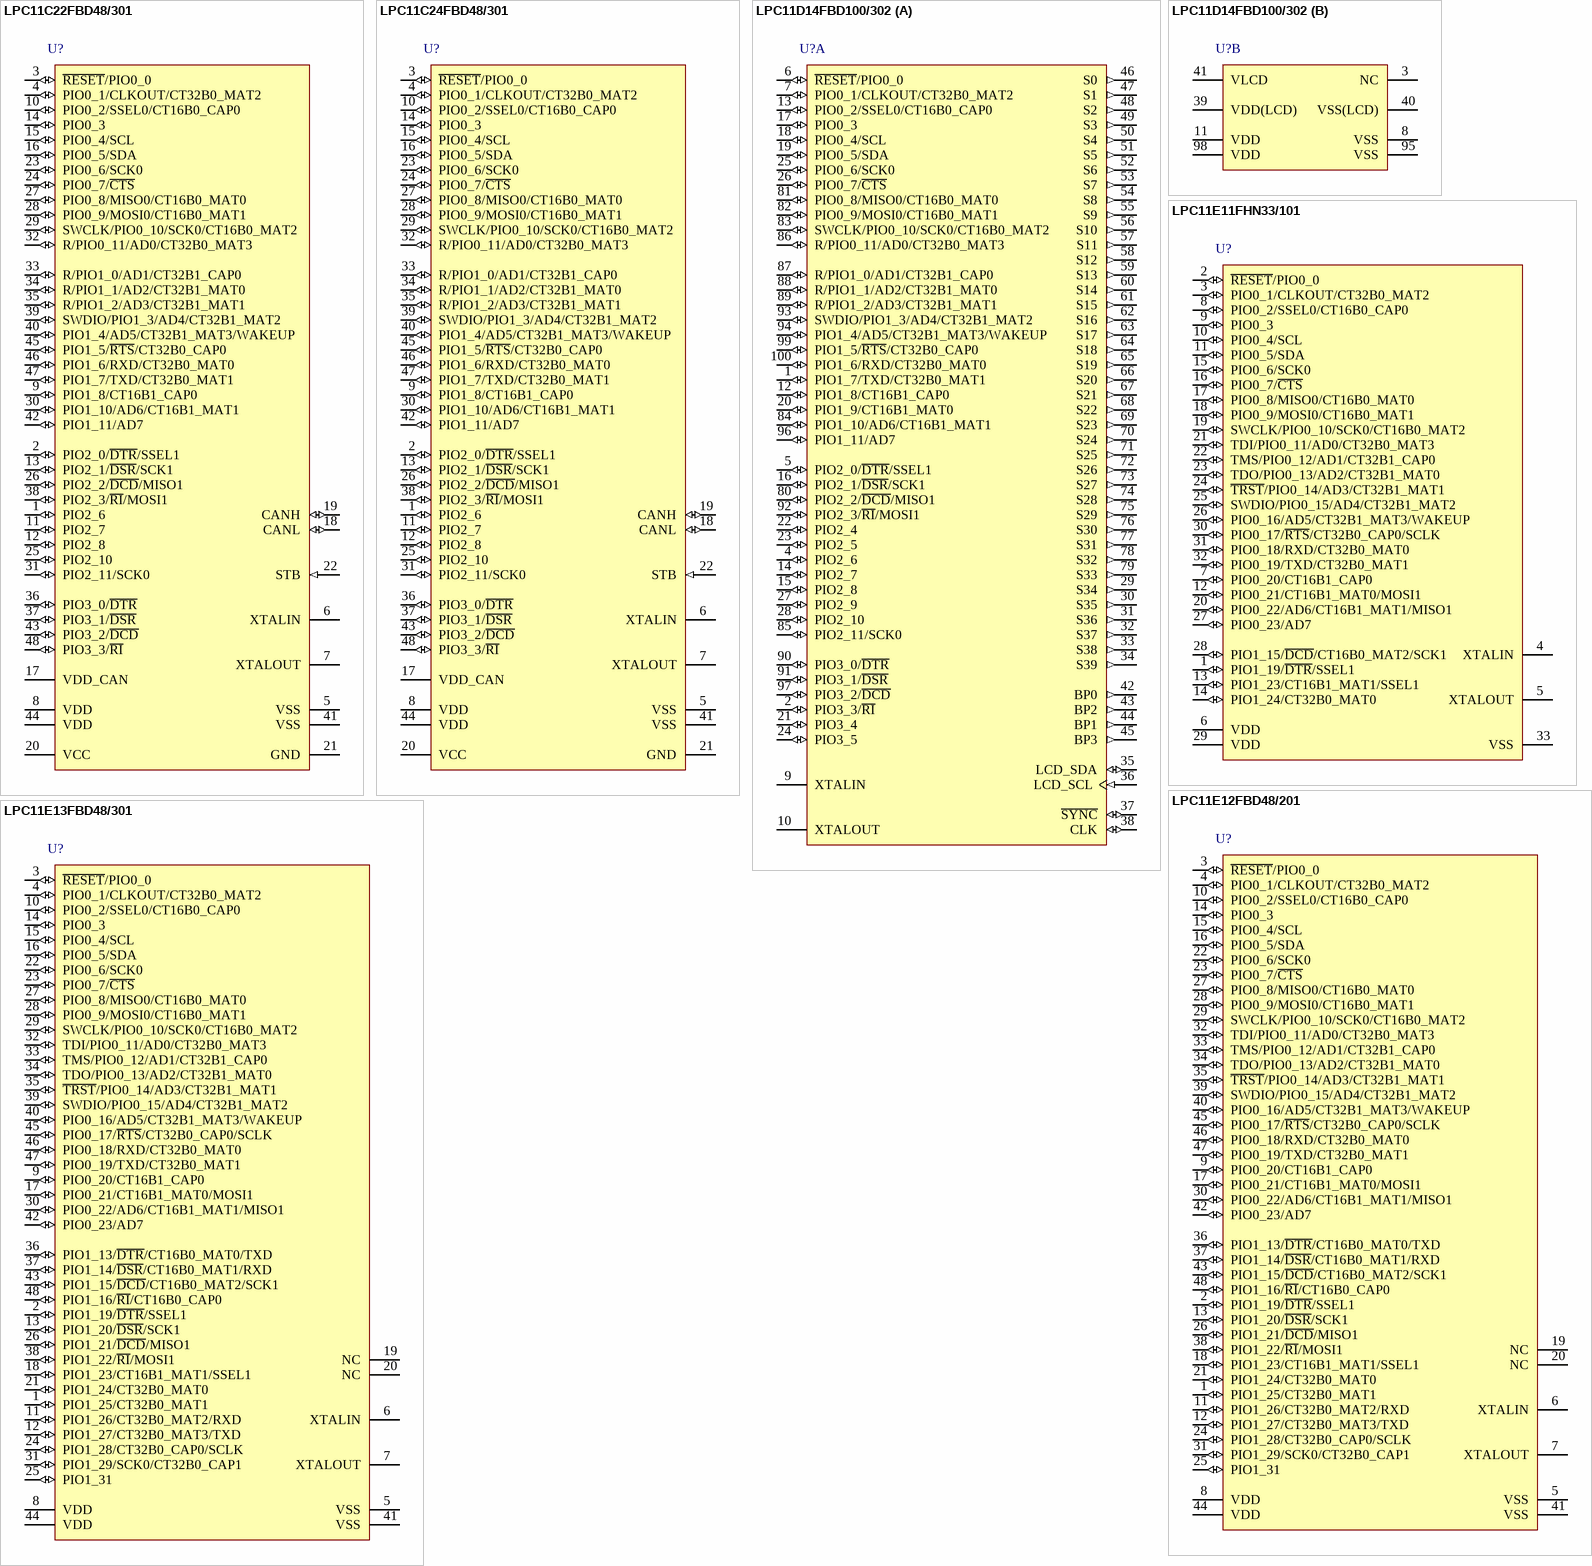
[diagram p2: symbols LPC11C22FBD48/301 to LPC11E13FBD48/301]

## LPC11C22FBD48/301
designator U?
32-bit ARM Cortex-M0 MCU, 16 kB Flash, 8 kB SRAM, CAN, CAN drivers on-chip, CAN Transceiver, 48-Pin LQFP; fmax: 50 MHz; SRAM: 8 kB; Flash: 16 kB; GPIOs: 36; CAN: 1; SPI: 2; PLL: Y; Timers: 4; ADC channels: 8; VDD (min): 1.8 V; VDD (typ): 3.3 V; VDD (max): 3.6 V; Code_IEC: 136E05; DatasheetVersion: Rev. 3, Jun-2011; PackageVersion: Feb-2003; PackageReference: SOT313-2; PackageDescription: LQFP48: Plastic Low Profile Quad Flat Package; 48 Leads; Body 7 x 7 x 1.4 mm; UART: 1; I2C: 1; Code_JEDEC: MS-026; ComponentLink1Description: Manufacturer URL; ComponentLink1URL: http://www.nxp.com/; ComponentLink2Description: Datasheet; ComponentLink2URL: http://www.nxp.com/documents/data_sheet/LPC11CX2_CX4.pdf
footprint SOT313-2_V (Thin QFP, 48-Leads, Body 7x7mm, Pitch 0.5mm, NXP Recommended)
footprint SOT313-2_N (Thin QFP, 48-Leads, Body 7x7mm, Pitch 0.5mm, IPC Medium Density)
footprint SOT313-2_L (Thin QFP, 48-Leads, Body 7x7mm, Pitch 0.5mm, IPC High Density)
footprint SOT313-2_M (Thin QFP, 48-Leads, Body 7x7mm, Pitch 0.5mm, IPC Low Density)
pins: 1 PIO2_6 (io), 2 PIO2_0/~{DTR}/SSEL1 (io), 3 ~{RESET}/PIO0_0 (io), 4 PIO0_1/CLKOUT/CT32B0_MAT2 (io), 5 VSS (power), 6 XTALIN, 7 XTALOUT, 8 VDD (power), 9 PIO1_8/CT16B1_CAP0 (io), 10 PIO0_2/SSEL0/CT16B0_CAP0 (io), 11 PIO2_7 (io), 12 PIO2_8 (io), 13 PIO2_1/~{DSR}/SCK1 (io), 14 PIO0_3 (io), 15 PIO0_4/SCL (io), 16 PIO0_5/SDA (io), 17 VDD_CAN (power), 18 CANL (io), 19 CANH (io), 20 VCC (power), 21 GND (power), 22 STB (in), 23 PIO0_6/SCK0 (io), 24 PIO0_7/~{CTS} (io), 25 PIO2_10 (io), 26 PIO2_2/~{DCD}/MISO1 (io), 27 PIO0_8/MISO0/CT16B0_MAT0 (io), 28 PIO0_9/MOSI0/CT16B0_MAT1 (io), 29 SWCLK/PIO0_10/SCK0/CT16B0_MAT2 (io), 30 PIO1_10/AD6/CT16B1_MAT1 (io), 31 PIO2_11/SCK0 (io), 32 R/PIO0_11/AD0/CT32B0_MAT3 (io), 33 R/PIO1_0/AD1/CT32B1_CAP0 (io), 34 R/PIO1_1/AD2/CT32B1_MAT0 (io), 35 R/PIO1_2/AD3/CT32B1_MAT1 (io), 36 PIO3_0/~{DTR} (io), 37 PIO3_1/~{DSR} (io), 38 PIO2_3/~{RI}/MOSI1 (io), 39 SWDIO/PIO1_3/AD4/CT32B1_MAT2 (io), 40 PIO1_4/AD5/CT32B1_MAT3/WAKEUP (io), 41 VSS (power), 42 PIO1_11/AD7 (io), 43 PIO3_2/~{DCD} (io), 44 VDD (power), 45 PIO1_5/~{RTS}/CT32B0_CAP0 (io), 46 PIO1_6/RXD/CT32B0_MAT0 (io), 47 PIO1_7/TXD/CT32B0_MAT1 (io), 48 PIO3_3/~{RI} (io)

## LPC11C24FBD48/301
designator U?
32-bit ARM Cortex-M0 MCU, 32 kB Flash, 8 kB SRAM, CAN, CAN drivers on-chip, CAN Transceiver, 48-Pin LQFP; fmax: 50 MHz; SRAM: 8 kB; Flash: 32 kB; GPIOs: 36; CAN: 1; SPI: 2; PLL: Y; Timers: 4; ADC channels: 8; VDD (min): 1.8 V; VDD (typ): 3.3 V; VDD (max): 3.6 V; Code_IEC: 136E05; DatasheetVersion: Rev. 3, Jun-2011; PackageVersion: Feb-2003; PackageReference: SOT313-2; PackageDescription: LQFP48: Plastic Low Profile Quad Flat Package; 48 Leads; Body 7 x 7 x 1.4 mm; UART: 1; I2C: 1; Code_JEDEC: MS-026; ComponentLink1Description: Manufacturer URL; ComponentLink1URL: http://www.nxp.com/; ComponentLink2Description: Datasheet; ComponentLink2URL: http://www.nxp.com/documents/data_sheet/LPC11CX2_CX4.pdf
footprint SOT313-2_V (Thin QFP, 48-Leads, Body 7x7mm, Pitch 0.5mm, NXP Recommended)
footprint SOT313-2_N (Thin QFP, 48-Leads, Body 7x7mm, Pitch 0.5mm, IPC Medium Density)
footprint SOT313-2_L (Thin QFP, 48-Leads, Body 7x7mm, Pitch 0.5mm, IPC High Density)
footprint SOT313-2_M (Thin QFP, 48-Leads, Body 7x7mm, Pitch 0.5mm, IPC Low Density)
pins: 1 PIO2_6 (io), 2 PIO2_0/~{DTR}/SSEL1 (io), 3 ~{RESET}/PIO0_0 (io), 4 PIO0_1/CLKOUT/CT32B0_MAT2 (io), 5 VSS (power), 6 XTALIN, 7 XTALOUT, 8 VDD (power), 9 PIO1_8/CT16B1_CAP0 (io), 10 PIO0_2/SSEL0/CT16B0_CAP0 (io), 11 PIO2_7 (io), 12 PIO2_8 (io), 13 PIO2_1/~{DSR}/SCK1 (io), 14 PIO0_3 (io), 15 PIO0_4/SCL (io), 16 PIO0_5/SDA (io), 17 VDD_CAN (power), 18 CANL (io), 19 CANH (io), 20 VCC (power), 21 GND (power), 22 STB (in), 23 PIO0_6/SCK0 (io), 24 PIO0_7/~{CTS} (io), 25 PIO2_10 (io), 26 PIO2_2/~{DCD}/MISO1 (io), 27 PIO0_8/MISO0/CT16B0_MAT0 (io), 28 PIO0_9/MOSI0/CT16B0_MAT1 (io), 29 SWCLK/PIO0_10/SCK0/CT16B0_MAT2 (io), 30 PIO1_10/AD6/CT16B1_MAT1 (io), 31 PIO2_11/SCK0 (io), 32 R/PIO0_11/AD0/CT32B0_MAT3 (io), 33 R/PIO1_0/AD1/CT32B1_CAP0 (io), 34 R/PIO1_1/AD2/CT32B1_MAT0 (io), 35 R/PIO1_2/AD3/CT32B1_MAT1 (io), 36 PIO3_0/~{DTR} (io), 37 PIO3_1/~{DSR} (io), 38 PIO2_3/~{RI}/MOSI1 (io), 39 SWDIO/PIO1_3/AD4/CT32B1_MAT2 (io), 40 PIO1_4/AD5/CT32B1_MAT3/WAKEUP (io), 41 VSS (power), 42 PIO1_11/AD7 (io), 43 PIO3_2/~{DCD} (io), 44 VDD (power), 45 PIO1_5/~{RTS}/CT32B0_CAP0 (io), 46 PIO1_6/RXD/CT32B0_MAT0 (io), 47 PIO1_7/TXD/CT32B0_MAT1 (io), 48 PIO3_3/~{RI} (io)

## LPC11D14FBD100/302
designator U?
32-bit ARM Cortex-M0 MCU, 32 kB Flash, 8 kB SRAM, 2 SPI, ADC, 100-Pin LQFP; fmax: 50 MHz; SRAM: 8 kB; Flash: 32 kB; GPIOs: 42; UART: 1; SPI: 2; PLL: Y; Timers: 4; ADC channels: 8; VDD (min): 1.8 V; VDD (typ): 3.3 V; VDD (max): 3.6 V; Code_IEC: 136E20; DatasheetVersion: Rev.1, Sep-2011; PackageVersion: Feb-2003; PackageReference: SOT407-1; PackageDescription: LQFP100: Plastic Low Profile Quad Flat Package; 100 Leads; Body 14 x 14 x 1.4 mm; I2C: 1; Code_JEDEC: MS-026; ComponentLink1Description: Manufacturer URL; ComponentLink1URL: http://www.nxp.com/; ComponentLink2Description: Datasheet; ComponentLink2URL: http://www.nxp.com/documents/data_sheet/LPC11D14.pdf
footprint SOT407-1_V (Thin QFP, 100-Leads, Body 14x14mm, Pitch 0.5mm, NXP Recommended)
footprint SOT407-1_N (Thin QFP, 100-Leads, Body 14x14mm, Pitch 0.5mm, IPC Medium Density)
footprint SOT407-1_L (Thin QFP, 100-Leads, Body 14x14mm, Pitch 0.5mm, IPC High Density)
footprint SOT407-1_M (Thin QFP, 100-Leads, Body 14x14mm, Pitch 0.5mm, IPC Low Density)
part A pins: 1 PIO1_7/TXD/CT32B0_MAT1 (io), 2 PIO3_3/~{RI} (io), 4 PIO2_6 (io), 5 PIO2_0/~{DTR}/SSEL1 (io), 6 ~{RESET}/PIO0_0 (io), 7 PIO0_1/CLKOUT/CT32B0_MAT2 (io), 9 XTALIN, 10 XTALOUT, 12 PIO1_8/CT16B1_CAP0 (io), 13 PIO0_2/SSEL0/CT16B0_CAP0 (io), 14 PIO2_7 (io), 15 PIO2_8 (io), 16 PIO2_1/~{DSR}/SCK1 (io), 17 PIO0_3 (io), 18 PIO0_4/SCL (io), 19 PIO0_5/SDA (io), 20 PIO1_9/CT16B1_MAT0 (io), 21 PIO3_4 (io), 22 PIO2_4 (io), 23 PIO2_5 (io), 24 PIO3_5 (io), 25 PIO0_6/SCK0 (io), 26 PIO0_7/~{CTS} (io), 27 PIO2_9 (io), 28 PIO2_10 (io), 29 S34 (out), 30 S35 (out), 31 S36 (out), 32 S37 (out), 33 S38 (out), 34 S39 (out), 35 LCD_SDA (io), 36 LCD_SCL (in), 37 ~{SYNC} (io), 38 CLK (io), 42 BP0 (out), 43 BP2 (out), 44 BP1 (out), 45 BP3 (out), 46 S0 (out), 47 S1 (out), 48 S2 (out), 49 S3 (out), 50 S4 (out), 51 S5 (out), 52 S6 (out), 53 S7 (out), 54 S8 (out), 55 S9 (out), 56 S10 (out), 57 S11 (out), 58 S12 (out), 59 S13 (out), 60 S14 (out), 61 S15 (out), 62 S16 (out), 63 S17 (out), 64 S18 (out), 65 S19 (out), 66 S20 (out), 67 S21 (out), 68 S22 (out), 69 S23 (out), 70 S24 (out), 71 S25 (out), 72 S26 (out), 73 S27 (out), 74 S28 (out), 75 S29 (out), 76 S30 (out), 77 S31 (out), 78 S32 (out), 79 S33 (out), 80 PIO2_2/~{DCD}/MISO1 (io), 81 PIO0_8/MISO0/CT16B0_MAT0 (io), 82 PIO0_9/MOSI0/CT16B0_MAT1 (io), 83 SWCLK/PIO0_10/SCK0/CT16B0_MAT2 (io), 84 PIO1_10/AD6/CT16B1_MAT1 (io), 85 PIO2_11/SCK0 (io), 86 R/PIO0_11/AD0/CT32B0_MAT3 (io), 87 R/PIO1_0/AD1/CT32B1_CAP0 (io), 88 R/PIO1_1/AD2/CT32B1_MAT0 (io), 89 R/PIO1_2/AD3/CT32B1_MAT1 (io), 90 PIO3_0/~{DTR} (io), 91 PIO3_1/~{DSR} (io), 92 PIO2_3/~{RI}/MOSI1 (io), 93 SWDIO/PIO1_3/AD4/CT32B1_MAT2 (io), 94 PIO1_4/AD5/CT32B1_MAT3/WAKEUP (io), 96 PIO1_11/AD7 (io), 97 PIO3_2/~{DCD} (io), 99 PIO1_5/~{RTS}/CT32B0_CAP0 (io), 100 PIO1_6/RXD/CT32B0_MAT0 (io)
part B pins: 3 NC, 8 VSS (power), 11 VDD (power), 39 VDD(LCD) (power), 40 VSS(LCD) (power), 41 VLCD (power), 95 VSS (power), 98 VDD (power)

## LPC11E11FHN33/101
designator U?
32-bit ARM Cortex-M0 MCU, 8 kB Flash, 4 kB SRAM, 512 Bytes EEPROM, 32-Pin HVQFN; fmax: 50 MHz; SRAM: 4 kB; Flash: 8 kB; EEPROM: 0.5 kB; GPIOs: 28; UART: 1; SSP: 2; PLL: Y; Timers: 4; ADC channels: 8; VDD (min): 1.8 V; VDD (typ): 3.3 V; VDD (max): 3.6 V; DatasheetVersion: Rev.1, Feb-2012; PackageVersion: Jun-2009; PackageReference: SOT865-3; PackageDescription: HVQFN32: Plastic Thermal Enhanced Very Thin Quad Flat Package; No Leads; 32 Terminals; Body 7 x 7 x 0.85 mm; I2C: 1; Code_JEDEC: MO-220; ComponentLink1Description: Manufacturer URL; ComponentLink1URL: http://www.nxp.com/; ComponentLink2Description: Datasheet; ComponentLink2URL: http://www.nxp.com/documents/data_sheet/LPC11E1X.pdf
footprint SOT865-3_V (QFN, 32-Leads, Body 7x7mm, Pitch 0.65mm, Thermal Pad 4.7x4.7mm, NXP Recommended)
footprint SOT865-3_N (QFN, 32-Leads, Body 7x7mm, Pitch 0.65mm, Thermal Pad 4.9x4.9mm, IPC Medium Density)
footprint SOT865-3_L (QFN, 32-Leads, Body 7x7mm, Pitch 0.65mm, Thermal Pad 4.9x4.9mm, IPC High Density)
footprint SOT865-3_M (QFN, 32-Leads, Body 7x7mm, Pitch 0.65mm, Thermal Pad 4.9x4.9mm, IPC Low Density)
pins: 1 PIO1_19/~{DTR}/SSEL1 (io), 2 ~{RESET}/PIO0_0 (io), 3 PIO0_1/CLKOUT/CT32B0_MAT2 (io), 4 XTALIN, 5 XTALOUT, 6 VDD (power), 7 PIO0_20/CT16B1_CAP0 (io), 8 PIO0_2/SSEL0/CT16B0_CAP0 (io), 9 PIO0_3 (io), 10 PIO0_4/SCL (io), 11 PIO0_5/SDA (io), 12 PIO0_21/CT16B1_MAT0/MOSI1 (io), 13 PIO1_23/CT16B1_MAT1/SSEL1 (io), 14 PIO1_24/CT32B0_MAT0 (io), 15 PIO0_6/SCK0 (io), 16 PIO0_7/~{CTS} (io), 17 PIO0_8/MISO0/CT16B0_MAT0 (io), 18 PIO0_9/MOSI0/CT16B0_MAT1 (io), 19 SWCLK/PIO0_10/SCK0/CT16B0_MAT2 (io), 20 PIO0_22/AD6/CT16B1_MAT1/MISO1 (io), 21 TDI/PIO0_11/AD0/CT32B0_MAT3 (io), 22 TMS/PIO0_12/AD1/CT32B1_CAP0 (io), 23 TDO/PIO0_13/AD2/CT32B1_MAT0 (io), 24 ~{TRST}/PIO0_14/AD3/CT32B1_MAT1 (io), 25 SWDIO/PIO0_15/AD4/CT32B1_MAT2 (io), 26 PIO0_16/AD5/CT32B1_MAT3/WAKEUP (io), 27 PIO0_23/AD7 (io), 28 PIO1_15/~{DCD}/CT16B0_MAT2/SCK1 (io), 29 VDD (power), 30 PIO0_17/~{RTS}/CT32B0_CAP0/SCLK (io), 31 PIO0_18/RXD/CT32B0_MAT0 (io), 32 PIO0_19/TXD/CT32B0_MAT1 (io), 33 VSS (power)

## LPC11E12FBD48/201
designator U?
32-bit ARM Cortex-M0 MCU, 16 kB Flash, 6 kB SRAM, 1 kB EEPROM, 48-Pin LQFP; fmax: 50 MHz; SRAM: 6 kB; Flash: 16 kB; EEPROM: 1 kB; GPIOs: 40; UART: 1; SSP: 2; PLL: Y; Timers: 4; ADC channels: 8; VDD (min): 1.8 V; VDD (typ): 3.3 V; VDD (max): 3.6 V; Code_IEC: 136E05; DatasheetVersion: Rev.1, Feb-2012; PackageVersion: Feb-2003; PackageReference: SOT313-2; PackageDescription: LQFP48: Plastic Low Profile Quad Flat Package; 48 Leads; Body 7 x 7 x 1.4 mm; I2C: 1; Code_JEDEC: MS-026; ComponentLink1Description: Manufacturer URL; ComponentLink1URL: http://www.nxp.com/; ComponentLink2Description: Datasheet; ComponentLink2URL: http://www.nxp.com/documents/data_sheet/LPC11E1X.pdf
footprint SOT313-2_V (Thin QFP, 48-Leads, Body 7x7mm, Pitch 0.5mm, NXP Recommended)
footprint SOT313-2_N (Thin QFP, 48-Leads, Body 7x7mm, Pitch 0.5mm, IPC Medium Density)
footprint SOT313-2_L (Thin QFP, 48-Leads, Body 7x7mm, Pitch 0.5mm, IPC High Density)
footprint SOT313-2_M (Thin QFP, 48-Leads, Body 7x7mm, Pitch 0.5mm, IPC Low Density)
pins: 1 PIO1_25/CT32B0_MAT1 (io), 2 PIO1_19/~{DTR}/SSEL1 (io), 3 ~{RESET}/PIO0_0 (io), 4 PIO0_1/CLKOUT/CT32B0_MAT2 (io), 5 VSS (power), 6 XTALIN, 7 XTALOUT, 8 VDD (power), 9 PIO0_20/CT16B1_CAP0 (io), 10 PIO0_2/SSEL0/CT16B0_CAP0 (io), 11 PIO1_26/CT32B0_MAT2/RXD (io), 12 PIO1_27/CT32B0_MAT3/TXD (io), 13 PIO1_20/~{DSR}/SCK1 (io), 14 PIO0_3 (io), 15 PIO0_4/SCL (io), 16 PIO0_5/SDA (io), 17 PIO0_21/CT16B1_MAT0/MOSI1 (io), 18 PIO1_23/CT16B1_MAT1/SSEL1 (io), 19 NC, 20 NC, 21 PIO1_24/CT32B0_MAT0 (io), 22 PIO0_6/SCK0 (io), 23 PIO0_7/~{CTS} (io), 24 PIO1_28/CT32B0_CAP0/SCLK (io), 25 PIO1_31 (io), 26 PIO1_21/~{DCD}/MISO1 (io), 27 PIO0_8/MISO0/CT16B0_MAT0 (io), 28 PIO0_9/MOSI0/CT16B0_MAT1 (io), 29 SWCLK/PIO0_10/SCK0/CT16B0_MAT2 (io), 30 PIO0_22/AD6/CT16B1_MAT1/MISO1 (io), 31 PIO1_29/SCK0/CT32B0_CAP1 (io), 32 TDI/PIO0_11/AD0/CT32B0_MAT3 (io), 33 TMS/PIO0_12/AD1/CT32B1_CAP0 (io), 34 TDO/PIO0_13/AD2/CT32B1_MAT0 (io), 35 ~{TRST}/PIO0_14/AD3/CT32B1_MAT1 (io), 36 PIO1_13/~{DTR}/CT16B0_MAT0/TXD (io), 37 PIO1_14/~{DSR}/CT16B0_MAT1/RXD (io), 38 PIO1_22/~{RI}/MOSI1 (io), 39 SWDIO/PIO0_15/AD4/CT32B1_MAT2 (io), 40 PIO0_16/AD5/CT32B1_MAT3/WAKEUP (io), 41 VSS (power), 42 PIO0_23/AD7 (io), 43 PIO1_15/~{DCD}/CT16B0_MAT2/SCK1 (io), 44 VDD (power), 45 PIO0_17/~{RTS}/CT32B0_CAP0/SCLK (io), 46 PIO0_18/RXD/CT32B0_MAT0 (io), 47 PIO0_19/TXD/CT32B0_MAT1 (io), 48 PIO1_16/~{RI}/CT16B0_CAP0 (io)

## LPC11E13FBD48/301
designator U?
32-bit ARM Cortex-M0 MCU, 24 kB Flash, 8 kB SRAM, 2 kB EEPROM, 48-Pin LQFP; fmax: 50 MHz; SRAM: 8 kB; Flash: 24 kB; EEPROM: 2 kB; GPIOs: 40; UART: 1; SSP: 2; PLL: Y; Timers: 4; ADC channels: 8; VDD (min): 1.8 V; VDD (typ): 3.3 V; VDD (max): 3.6 V; Code_IEC: 136E05; DatasheetVersion: Rev.1, Feb-2012; PackageVersion: Feb-2003; PackageReference: SOT313-2; PackageDescription: LQFP48: Plastic Low Profile Quad Flat Package; 48 Leads; Body 7 x 7 x 1.4 mm; I2C: 1; Code_JEDEC: MS-026; ComponentLink1Description: Manufacturer URL; ComponentLink1URL: http://www.nxp.com/; ComponentLink2Description: Datasheet; ComponentLink2URL: http://www.nxp.com/documents/data_sheet/LPC11E1X.pdf
footprint SOT313-2_V (Thin QFP, 48-Leads, Body 7x7mm, Pitch 0.5mm, NXP Recommended)
footprint SOT313-2_N (Thin QFP, 48-Leads, Body 7x7mm, Pitch 0.5mm, IPC Medium Density)
footprint SOT313-2_L (Thin QFP, 48-Leads, Body 7x7mm, Pitch 0.5mm, IPC High Density)
footprint SOT313-2_M (Thin QFP, 48-Leads, Body 7x7mm, Pitch 0.5mm, IPC Low Density)
pins: 1 PIO1_25/CT32B0_MAT1 (io), 2 PIO1_19/~{DTR}/SSEL1 (io), 3 ~{RESET}/PIO0_0 (io), 4 PIO0_1/CLKOUT/CT32B0_MAT2 (io), 5 VSS (power), 6 XTALIN, 7 XTALOUT, 8 VDD (power), 9 PIO0_20/CT16B1_CAP0 (io), 10 PIO0_2/SSEL0/CT16B0_CAP0 (io), 11 PIO1_26/CT32B0_MAT2/RXD (io), 12 PIO1_27/CT32B0_MAT3/TXD (io), 13 PIO1_20/~{DSR}/SCK1 (io), 14 PIO0_3 (io), 15 PIO0_4/SCL (io), 16 PIO0_5/SDA (io), 17 PIO0_21/CT16B1_MAT0/MOSI1 (io), 18 PIO1_23/CT16B1_MAT1/SSEL1 (io), 19 NC, 20 NC, 21 PIO1_24/CT32B0_MAT0 (io), 22 PIO0_6/SCK0 (io), 23 PIO0_7/~{CTS} (io), 24 PIO1_28/CT32B0_CAP0/SCLK (io), 25 PIO1_31 (io), 26 PIO1_21/~{DCD}/MISO1 (io), 27 PIO0_8/MISO0/CT16B0_MAT0 (io), 28 PIO0_9/MOSI0/CT16B0_MAT1 (io), 29 SWCLK/PIO0_10/SCK0/CT16B0_MAT2 (io), 30 PIO0_22/AD6/CT16B1_MAT1/MISO1 (io), 31 PIO1_29/SCK0/CT32B0_CAP1 (io), 32 TDI/PIO0_11/AD0/CT32B0_MAT3 (io), 33 TMS/PIO0_12/AD1/CT32B1_CAP0 (io), 34 TDO/PIO0_13/AD2/CT32B1_MAT0 (io), 35 ~{TRST}/PIO0_14/AD3/CT32B1_MAT1 (io), 36 PIO1_13/~{DTR}/CT16B0_MAT0/TXD (io), 37 PIO1_14/~{DSR}/CT16B0_MAT1/RXD (io), 38 PIO1_22/~{RI}/MOSI1 (io), 39 SWDIO/PIO0_15/AD4/CT32B1_MAT2 (io), 40 PIO0_16/AD5/CT32B1_MAT3/WAKEUP (io), 41 VSS (power), 42 PIO0_23/AD7 (io), 43 PIO1_15/~{DCD}/CT16B0_MAT2/SCK1 (io), 44 VDD (power), 45 PIO0_17/~{RTS}/CT32B0_CAP0/SCLK (io), 46 PIO0_18/RXD/CT32B0_MAT0 (io), 47 PIO0_19/TXD/CT32B0_MAT1 (io), 48 PIO1_16/~{RI}/CT16B0_CAP0 (io)

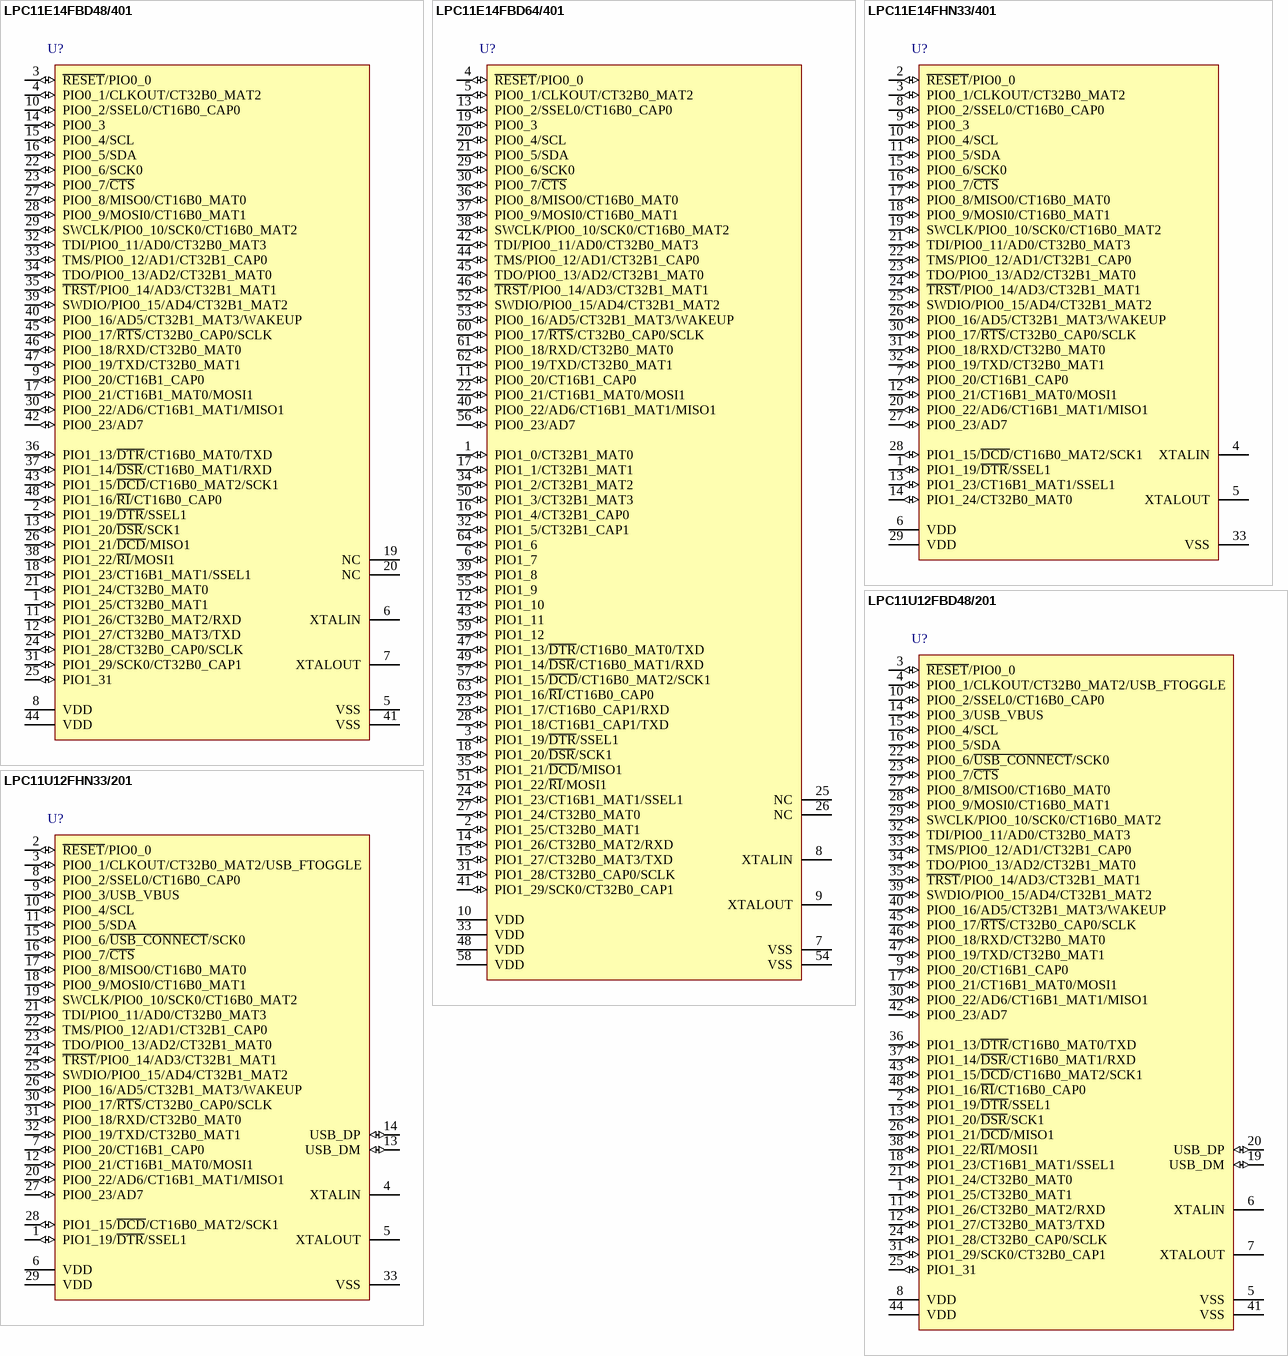
[diagram p3: symbols LPC11E14FBD48/401 to LPC11U12FHN33/201]

## LPC11E14FBD48/401
designator U?
32-bit ARM Cortex-M0 MCU, 32 kB Flash, 10 kB SRAM, 4 kB EEPROM, 48-Pin LQFP; fmax: 50 MHz; SRAM: 10 kB; Flash: 32 kB; EEPROM: 4 kB; GPIOs: 40; UART: 1; SSP: 2; PLL: Y; Timers: 4; ADC channels: 8; VDD (min): 1.8 V; VDD (typ): 3.3 V; VDD (max): 3.6 V; Code_IEC: 136E05; DatasheetVersion: Rev.1, Feb-2012; PackageVersion: Feb-2003; PackageReference: SOT313-2; PackageDescription: LQFP48: Plastic Low Profile Quad Flat Package; 48 Leads; Body 7 x 7 x 1.4 mm; I2C: 1; Code_JEDEC: MS-026; ComponentLink1Description: Manufacturer URL; ComponentLink1URL: http://www.nxp.com/; ComponentLink2Description: Datasheet; ComponentLink2URL: http://www.nxp.com/documents/data_sheet/LPC11E1X.pdf
footprint SOT313-2_V (Thin QFP, 48-Leads, Body 7x7mm, Pitch 0.5mm, NXP Recommended)
footprint SOT313-2_N (Thin QFP, 48-Leads, Body 7x7mm, Pitch 0.5mm, IPC Medium Density)
footprint SOT313-2_L (Thin QFP, 48-Leads, Body 7x7mm, Pitch 0.5mm, IPC High Density)
footprint SOT313-2_M (Thin QFP, 48-Leads, Body 7x7mm, Pitch 0.5mm, IPC Low Density)
pins: 1 PIO1_25/CT32B0_MAT1 (io), 2 PIO1_19/~{DTR}/SSEL1 (io), 3 ~{RESET}/PIO0_0 (io), 4 PIO0_1/CLKOUT/CT32B0_MAT2 (io), 5 VSS (power), 6 XTALIN, 7 XTALOUT, 8 VDD (power), 9 PIO0_20/CT16B1_CAP0 (io), 10 PIO0_2/SSEL0/CT16B0_CAP0 (io), 11 PIO1_26/CT32B0_MAT2/RXD (io), 12 PIO1_27/CT32B0_MAT3/TXD (io), 13 PIO1_20/~{DSR}/SCK1 (io), 14 PIO0_3 (io), 15 PIO0_4/SCL (io), 16 PIO0_5/SDA (io), 17 PIO0_21/CT16B1_MAT0/MOSI1 (io), 18 PIO1_23/CT16B1_MAT1/SSEL1 (io), 19 NC, 20 NC, 21 PIO1_24/CT32B0_MAT0 (io), 22 PIO0_6/SCK0 (io), 23 PIO0_7/~{CTS} (io), 24 PIO1_28/CT32B0_CAP0/SCLK (io), 25 PIO1_31 (io), 26 PIO1_21/~{DCD}/MISO1 (io), 27 PIO0_8/MISO0/CT16B0_MAT0 (io), 28 PIO0_9/MOSI0/CT16B0_MAT1 (io), 29 SWCLK/PIO0_10/SCK0/CT16B0_MAT2 (io), 30 PIO0_22/AD6/CT16B1_MAT1/MISO1 (io), 31 PIO1_29/SCK0/CT32B0_CAP1 (io), 32 TDI/PIO0_11/AD0/CT32B0_MAT3 (io), 33 TMS/PIO0_12/AD1/CT32B1_CAP0 (io), 34 TDO/PIO0_13/AD2/CT32B1_MAT0 (io), 35 ~{TRST}/PIO0_14/AD3/CT32B1_MAT1 (io), 36 PIO1_13/~{DTR}/CT16B0_MAT0/TXD (io), 37 PIO1_14/~{DSR}/CT16B0_MAT1/RXD (io), 38 PIO1_22/~{RI}/MOSI1 (io), 39 SWDIO/PIO0_15/AD4/CT32B1_MAT2 (io), 40 PIO0_16/AD5/CT32B1_MAT3/WAKEUP (io), 41 VSS (power), 42 PIO0_23/AD7 (io), 43 PIO1_15/~{DCD}/CT16B0_MAT2/SCK1 (io), 44 VDD (power), 45 PIO0_17/~{RTS}/CT32B0_CAP0/SCLK (io), 46 PIO0_18/RXD/CT32B0_MAT0 (io), 47 PIO0_19/TXD/CT32B0_MAT1 (io), 48 PIO1_16/~{RI}/CT16B0_CAP0 (io)

## LPC11E14FBD64/401
designator U?
32-bit ARM Cortex-M0 MCU, 32 kB Flash, 10 kB SRAM, 4 kB EEPROM, 64-Pin LQFP; fmax: 50 MHz; SRAM: 10 kB; Flash: 32 kB; EEPROM: 4 kB; GPIOs: 54; UART: 1; SSP: 2; PLL: Y; Timers: 4; ADC channels: 8; VDD (min): 1.8 V; VDD (typ): 3.3 V; VDD (max): 3.6 V; Code_IEC: 136E10; DatasheetVersion: Rev.1, Feb-2012; PackageVersion: Feb-2003; PackageReference: SOT314-2; PackageDescription: LQFP64: Plastic Low Profile Quad Flat Package; 64 Leads; Body 10 x 10 x 1.4 mm; I2C: 1; Code_JEDEC: MS-026; ComponentLink1Description: Manufacturer URL; ComponentLink1URL: http://www.nxp.com/; ComponentLink2Description: Datasheet; ComponentLink2URL: http://www.nxp.com/documents/data_sheet/LPC11E1X.pdf
footprint SOT314-2_V (Thin QFP, 64-Leads, Body 10x10mm, Pitch 0.5mm, NXP Recommended)
footprint SOT314-2_N (Thin QFP, 64-Leads, Body 10x10mm, Pitch 0.5mm, IPC Medium Density)
footprint SOT314-2_L (Thin QFP, 64-Leads, Body 10x10mm, Pitch 0.5mm, IPC High Density)
footprint SOT314-2_M (Thin QFP, 64-Leads, Body 10x10mm, Pitch 0.5mm, IPC Low Density)
pins: 1 PIO1_0/CT32B1_MAT0 (io), 2 PIO1_25/CT32B0_MAT1 (io), 3 PIO1_19/~{DTR}/SSEL1 (io), 4 ~{RESET}/PIO0_0 (io), 5 PIO0_1/CLKOUT/CT32B0_MAT2 (io), 6 PIO1_7 (io), 7 VSS (power), 8 XTALIN, 9 XTALOUT, 10 VDD (power), 11 PIO0_20/CT16B1_CAP0 (io), 12 PIO1_10 (io), 13 PIO0_2/SSEL0/CT16B0_CAP0 (io), 14 PIO1_26/CT32B0_MAT2/RXD (io), 15 PIO1_27/CT32B0_MAT3/TXD (io), 16 PIO1_4/CT32B1_CAP0 (io), 17 PIO1_1/CT32B1_MAT1 (io), 18 PIO1_20/~{DSR}/SCK1 (io), 19 PIO0_3 (io), 20 PIO0_4/SCL (io), 21 PIO0_5/SDA (io), 22 PIO0_21/CT16B1_MAT0/MOSI1 (io), 23 PIO1_17/CT16B0_CAP1/RXD (io), 24 PIO1_23/CT16B1_MAT1/SSEL1 (io), 25 NC, 26 NC, 27 PIO1_24/CT32B0_MAT0 (io), 28 PIO1_18/CT16B1_CAP1/TXD (io), 29 PIO0_6/SCK0 (io), 30 PIO0_7/~{CTS} (io), 31 PIO1_28/CT32B0_CAP0/SCLK (io), 32 PIO1_5/CT32B1_CAP1 (io), 33 VDD (power), 34 PIO1_2/CT32B1_MAT2 (io), 35 PIO1_21/~{DCD}/MISO1 (io), 36 PIO0_8/MISO0/CT16B0_MAT0 (io), 37 PIO0_9/MOSI0/CT16B0_MAT1 (io), 38 SWCLK/PIO0_10/SCK0/CT16B0_MAT2 (io), 39 PIO1_8 (io), 40 PIO0_22/AD6/CT16B1_MAT1/MISO1 (io), 41 PIO1_29/SCK0/CT32B0_CAP1 (io), 42 TDI/PIO0_11/AD0/CT32B0_MAT3 (io), 43 PIO1_11 (io), 44 TMS/PIO0_12/AD1/CT32B1_CAP0 (io), 45 TDO/PIO0_13/AD2/CT32B1_MAT0 (io), 46 ~{TRST}/PIO0_14/AD3/CT32B1_MAT1 (io), 47 PIO1_13/~{DTR}/CT16B0_MAT0/TXD (io), 48 VDD (power), 49 PIO1_14/~{DSR}/CT16B0_MAT1/RXD (io), 50 PIO1_3/CT32B1_MAT3 (io), 51 PIO1_22/~{RI}/MOSI1 (io), 52 SWDIO/PIO0_15/AD4/CT32B1_MAT2 (io), 53 PIO0_16/AD5/CT32B1_MAT3/WAKEUP (io), 54 VSS (power), 55 PIO1_9 (io), 56 PIO0_23/AD7 (io), 57 PIO1_15/~{DCD}/CT16B0_MAT2/SCK1 (io), 58 VDD (power), 59 PIO1_12 (io), 60 PIO0_17/~{RTS}/CT32B0_CAP0/SCLK (io), 61 PIO0_18/RXD/CT32B0_MAT0 (io), 62 PIO0_19/TXD/CT32B0_MAT1 (io), 63 PIO1_16/~{RI}/CT16B0_CAP0 (io), 64 PIO1_6 (io)

## LPC11E14FHN33/401
designator U?
32-bit ARM Cortex-M0 MCU, 32 kB Flash, 10 kB SRAM, 4 kB EEPROM, 32-Pin HVQFN; fmax: 50 MHz; SRAM: 10 kB; Flash: 32 kB; EEPROM: 4 kB; GPIOs: 28; UART: 1; SSP: 2; PLL: Y; Timers: 4; ADC channels: 8; VDD (min): 1.8 V; VDD (typ): 3.3 V; VDD (max): 3.6 V; DatasheetVersion: Rev.1, Feb-2012; PackageVersion: Jun-2009; PackageReference: SOT865-3; PackageDescription: HVQFN32: Plastic Thermal Enhanced Very Thin Quad Flat Package; No Leads; 32 Terminals; Body 7 x 7 x 0.85 mm; I2C: 1; Code_JEDEC: MO-220; ComponentLink1Description: Manufacturer URL; ComponentLink1URL: http://www.nxp.com/; ComponentLink2Description: Datasheet; ComponentLink2URL: http://www.nxp.com/documents/data_sheet/LPC11E1X.pdf
footprint SOT865-3_V (QFN, 32-Leads, Body 7x7mm, Pitch 0.65mm, Thermal Pad 4.7x4.7mm, NXP Recommended)
footprint SOT865-3_N (QFN, 32-Leads, Body 7x7mm, Pitch 0.65mm, Thermal Pad 4.9x4.9mm, IPC Medium Density)
footprint SOT865-3_L (QFN, 32-Leads, Body 7x7mm, Pitch 0.65mm, Thermal Pad 4.9x4.9mm, IPC High Density)
footprint SOT865-3_M (QFN, 32-Leads, Body 7x7mm, Pitch 0.65mm, Thermal Pad 4.9x4.9mm, IPC Low Density)
pins: 1 PIO1_19/~{DTR}/SSEL1 (io), 2 ~{RESET}/PIO0_0 (io), 3 PIO0_1/CLKOUT/CT32B0_MAT2 (io), 4 XTALIN, 5 XTALOUT, 6 VDD (power), 7 PIO0_20/CT16B1_CAP0 (io), 8 PIO0_2/SSEL0/CT16B0_CAP0 (io), 9 PIO0_3 (io), 10 PIO0_4/SCL (io), 11 PIO0_5/SDA (io), 12 PIO0_21/CT16B1_MAT0/MOSI1 (io), 13 PIO1_23/CT16B1_MAT1/SSEL1 (io), 14 PIO1_24/CT32B0_MAT0 (io), 15 PIO0_6/SCK0 (io), 16 PIO0_7/~{CTS} (io), 17 PIO0_8/MISO0/CT16B0_MAT0 (io), 18 PIO0_9/MOSI0/CT16B0_MAT1 (io), 19 SWCLK/PIO0_10/SCK0/CT16B0_MAT2 (io), 20 PIO0_22/AD6/CT16B1_MAT1/MISO1 (io), 21 TDI/PIO0_11/AD0/CT32B0_MAT3 (io), 22 TMS/PIO0_12/AD1/CT32B1_CAP0 (io), 23 TDO/PIO0_13/AD2/CT32B1_MAT0 (io), 24 ~{TRST}/PIO0_14/AD3/CT32B1_MAT1 (io), 25 SWDIO/PIO0_15/AD4/CT32B1_MAT2 (io), 26 PIO0_16/AD5/CT32B1_MAT3/WAKEUP (io), 27 PIO0_23/AD7 (io), 28 PIO1_15/~{DCD}/CT16B0_MAT2/SCK1 (io), 29 VDD (power), 30 PIO0_17/~{RTS}/CT32B0_CAP0/SCLK (io), 31 PIO0_18/RXD/CT32B0_MAT0 (io), 32 PIO0_19/TXD/CT32B0_MAT1 (io), 33 VSS (power)